# Altium integrated library NSC Interface.IntLib: 511 symbols (part 6 of 17)
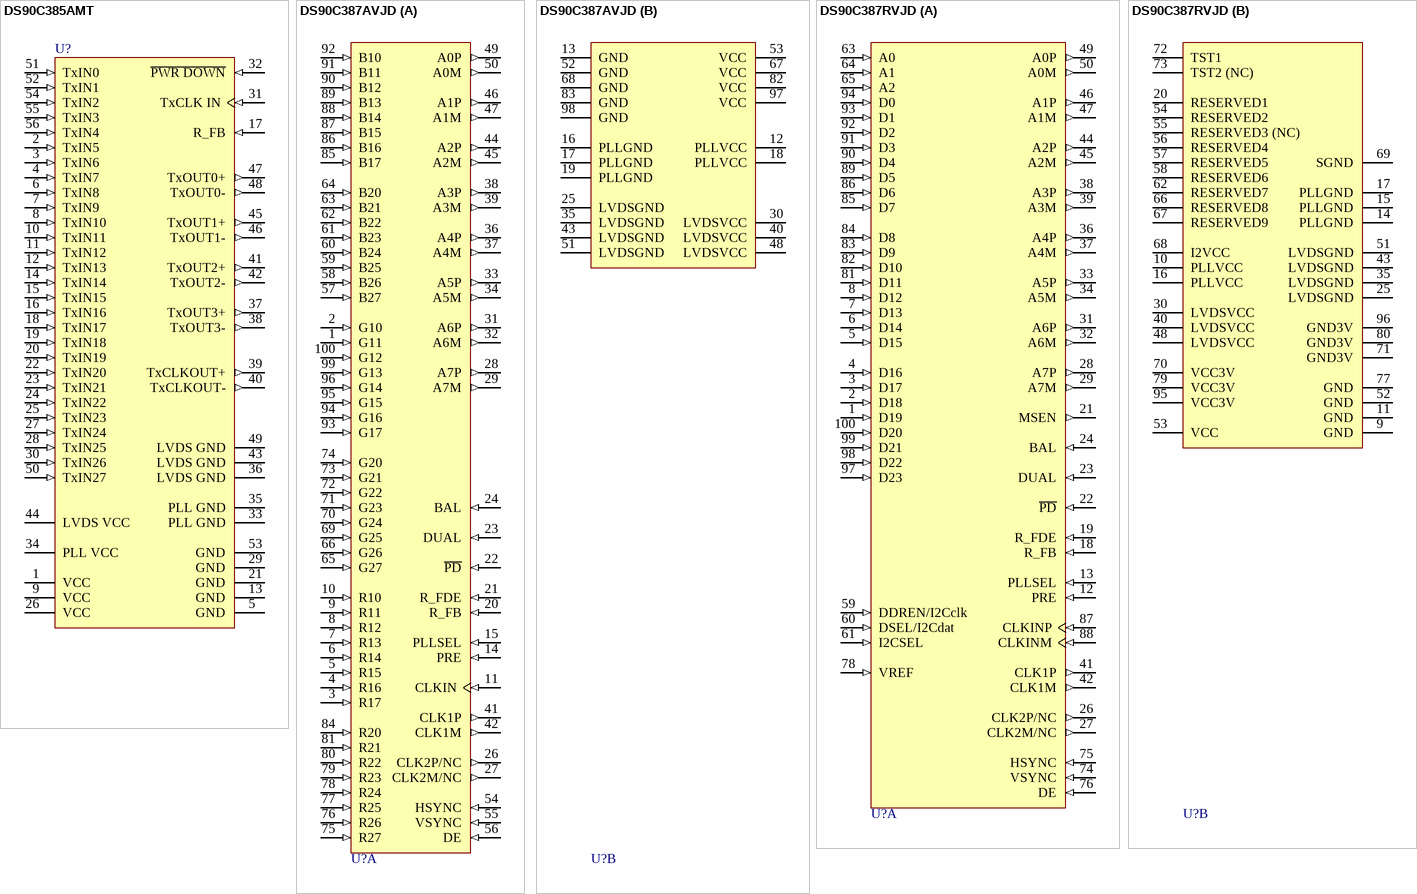
[diagram p47: symbols DS90C385AMT to DS90C387RVJD]

## DS90C387RVJD
designator U?
85MHz Dual 12-Bit Double Pumped Input LDI Transmitter VGA/UXGA; PartNumber: DS90C387RVJD; Manufacturer: National Semiconductor; CompType: Interface IC; PackageTopMarking: NS2ZXYYTT*DS90C387RVJD*BBBBB; PowerWise: N; Published: 4-Dec-2008; DatasheetVersion: Dec-2003; PackageVersion: revC, May-2004; PackageReference: VJD100A; Publisher: Altium Limited; PackageDescription: TQFP, Jedec, Metric, 14 x 14 x 1.0mm, 100 Lead; RoHS: Y; PinCount: 100; DigiKeyPartNumber: DS90C387RVJD-ND; Code_JEDEC: MS-026-AED; ComponentLink1Description: DS90C387R Datasheet; ComponentLink1URL: http://www.national.com/ds/DS/DS90C387R.pdf; ComponentLink2Description: DS90C387R Web Page; ComponentLink2URL: http://www.national.com/pf/DS/DS90C387R.html; ComponentLink3Description: VJD100A Package Page; ComponentLink3URL: http://www.national.com/packaging/folders/vjd100a.html
footprint VJD100A_N (Thin QFP, 100-Leads, Body 14x14mm, Pitch 0.5mm, IPC Medium Density)
footprint VJD100A_L (Thin QFP, 100-Leads, Body 14x14mm, Pitch 0.5mm, IPC High Density)
footprint VJD100A_M (Thin QFP, 100-Leads, Body 14x14mm, Pitch 0.5mm, IPC Low Density)
part A pins: 1 D19 (in), 2 D18 (in), 3 D17 (in), 4 D16 (in), 5 D15 (in), 6 D14 (in), 7 D13 (in), 8 D12  (in), 12 PRE (in), 13 PLLSEL (in), 18 R_FB (in), 19 R_FDE (in), 21 MSEN (out), 22 ~{PD} (in), 23 DUAL (in), 24 BAL (in), 26 CLK2P/NC (out), 27 CLK2M/NC (out), 28 A7P (out), 29 A7M (out), 31 A6P (out), 32 A6M (out), 33 A5P (out), 34 A5M (out), 36 A4P (out), 37 A4M (out), 38 A3P (out), 39 A3M (out), 41 CLK1P (out), 42 CLK1M (out), 44 A2P (out), 45 A2M (out), 46 A1P (out), 47 A1M (out), 49 A0P (out), 50 A0M (out), 59 DDREN/I2Cclk (in), 60 DSEL/I2Cdat (in), 61 I2CSEL (in), 63 A0 (in), 64 A1 (in), 65 A2 (in), 74 VSYNC (in), 75 HSYNC (in), 76 DE (in), 78 VREF (in), 81 D11 (in), 82 D10 (in), 83 D9 (in), 84 D8 (in), 85 D7 (in), 86 D6 (in), 87 CLKINP (in), 88 CLKINM (in), 89 D5 (in), 90 D4 (in), 91 D3 (in), 92 D2 (in), 93 D1 (in), 94 D0 (in), 97 D23 (in), 98 D22 (in), 99 D21 (in), 100 D20 (in)
part B pins: 9 GND (power), 10 PLLVCC (power), 11 GND (power), 14 PLLGND (power), 15 PLLGND (power), 16 PLLVCC (power), 17 PLLGND (power), 20 RESERVED1, 25 LVDSGND (power), 30 LVDSVCC (power), 35 LVDSGND (power), 40 LVDSVCC (power), 43 LVDSGND (power), 48 LVDSVCC (power), 51 LVDSGND (power), 52 GND (power), 53 VCC (power), 54 RESERVED2, 55 RESERVED3 (NC), 56 RESERVED4, 57 RESERVED5, 58 RESERVED6, 62 RESERVED7, 66 RESERVED8, 67 RESERVED9, 68 I2VCC (power), 69 SGND (power), 70 VCC3V (power), 71 GND3V (power), 72 TST1, 73 TST2 (NC), 77 GND (power), 79 VCC3V (power), 80 GND3V (power), 95 VCC3V (power), 96 GND3V (power)

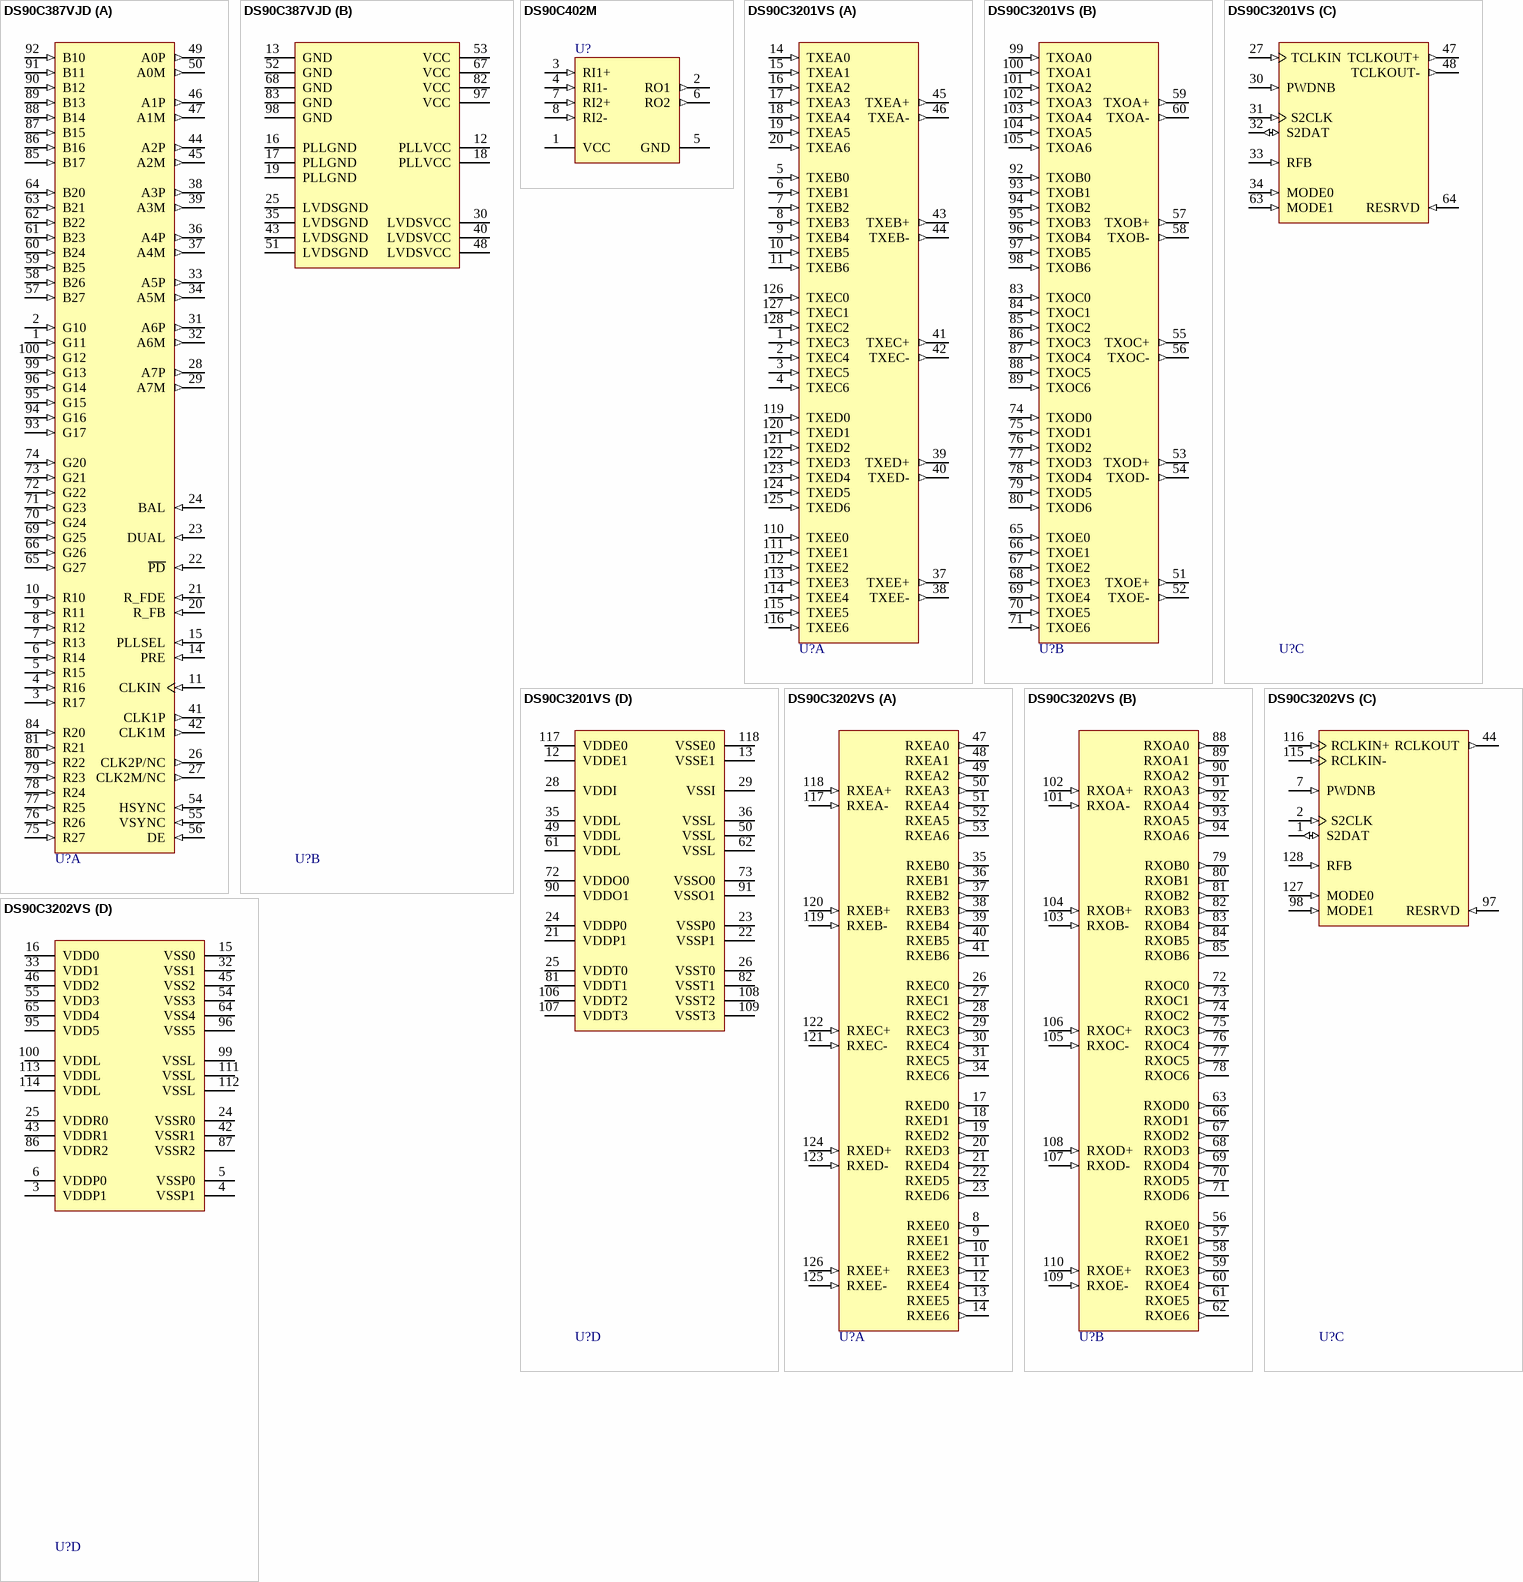
[diagram p14: symbols DS90C387VJD to DS90C3202VS]

## DS90C387VJD
designator U?
+3.3V Dual Pixel LVDS Display Interface (LDI)-SVGA/QXGA; PartNumber: DS90C387VJD; Manufacturer: National Semiconductor; CompType: Interface IC; PackageTopMarking: NS2ZXYYTT*DS90C387VJD*BBBBB; PowerWise: N; Published: 4-Dec-2008; DatasheetVersion: Feb-2006; PackageVersion: revC, May-2004; PackageReference: VJD100A; Publisher: Altium Limited; PackageDescription: TQFP, Jedec, Metric, 14 x 14 x 1.0mm, 100 Lead; RoHS: O; PinCount: 100; DigiKeyPartNumber: DS90C387VJD-ND; Code_JEDEC: MS-026-AED; ComponentLink1Description: DS90C387 Datasheet; ComponentLink1URL: http://www.national.com/ds/DS/DS90C387.pdf; ComponentLink2Description: DS90C387 Web Page; ComponentLink2URL: http://www.national.com/pf/DS/DS90C387.html; ComponentLink3Description: VJD100A Package Page; ComponentLink3URL: http://www.national.com/packaging/folders/vjd100a.html
footprint VJD100A_N (Thin QFP, 100-Leads, Body 14x14mm, Pitch 0.5mm, IPC Medium Density)
footprint VJD100A_L (Thin QFP, 100-Leads, Body 14x14mm, Pitch 0.5mm, IPC High Density)
footprint VJD100A_M (Thin QFP, 100-Leads, Body 14x14mm, Pitch 0.5mm, IPC Low Density)
part A pins: 1 G11 (in), 2 G10 (in), 3 R17 (in), 4 R16 (in), 5 R15 (in), 6 R14 (in), 7 R13 (in), 8 R12 (in), 9 R11 (in), 10 R10 (in), 11 CLKIN (in), 14 PRE (in), 15 PLLSEL (in), 20 R_FB (in), 21 R_FDE (in), 22 ~{PD} (in), 23 DUAL (in), 24 BAL (in), 26 CLK2P/NC (out), 27 CLK2M/NC (out), 28 A7P (out), 29 A7M (out), 31 A6P (out), 32 A6M (out), 33 A5P (out), 34 A5M (out), 36 A4P (out), 37 A4M (out), 38 A3P (out), 39 A3M (out), 41 CLK1P (out), 42 CLK1M (out), 44 A2P (out), 45 A2M (out), 46 A1P (out), 47 A1M (out), 49 A0P (out), 50 A0M (out), 54 HSYNC (in), 55 VSYNC (in), 56 DE (in), 57 B27 (in), 58 B26 (in), 59 B25 (in), 60 B24 (in), 61 B23 (in), 62 B22 (in), 63 B21 (in), 64 B20 (in), 65 G27 (in), 66 G26 (in), 69 G25 (in), 70 G24 (in), 71 G23 (in), 72 G22 (in), 73 G21 (in), 74 G20 (in), 75 R27 (in), 76 R26 (in), 77 R25 (in), 78 R24 (in), 79 R23 (in), 80 R22 (in), 81 R21 (in), 84 R20 (in), 85 B17 (in), 86 B16 (in), 87 B15 (in), 88 B14 (in), 89 B13 (in), 90 B12 (in), 91 B11 (in), 92 B10 (in), 93 G17 (in), 94 G16 (in), 95 G15 (in), 96 G14 (in), 99 G13 (in), 100 G12 (in)
part B pins: 12 PLLVCC (power), 13 GND (power), 16 PLLGND (power), 17 PLLGND (power), 18 PLLVCC (power), 19 PLLGND (power), 25 LVDSGND (power), 30 LVDSVCC (power), 35 LVDSGND (power), 40 LVDSVCC (power), 43 LVDSGND (power), 48 LVDSVCC (power), 51 LVDSGND (power), 52 GND (power), 53 VCC (power), 67 VCC (power), 68 GND (power), 82 VCC (power), 83 GND (power), 97 VCC (power), 98 GND (power)

## DS90C402M
designator U?
Dual Low Voltage Differential Signaling (LVDS) Receiver; PartNumber: DS90C402M; Manufacturer: National Semiconductor; CompType: Interface IC; PackageTopMarking: NSZXTT*DS90C*402M; PowerWise: N; Published: 4-Dec-2008; DatasheetVersion: Aug-2005; PackageVersion: revL, Sep-2006; PackageReference: M08A; Publisher: Altium Limited; PackageDescription: SOIC Narrow, 4.9 x 3.9 x 1.45mm, 8 Lead, 1.27mm Pitch; RoHS: O; PinCount: 8; DigiKeyPartNumber: DS90C402M-ND; Code_JEDEC: MS-012-AA; Code_IPC: SOIC127P600-8; ComponentLink1Description: DS90C402 Datasheet; ComponentLink1URL: http://www.national.com/ds/DS/DS90C402.pdf; ComponentLink2Description: DS90C402 Web Page; ComponentLink2URL: http://www.national.com/pf/DS/DS90C402.html; ComponentLink3Description: M08A Package Page; ComponentLink3URL: http://www.national.com/packaging/folders/m08a.html
footprint M08A_N (SOIC, 8-Leads, Body 4.9x3.9mm, Pitch 1.27mm, IPC Medium Density)
footprint M08A_L (SOIC, 8-Leads, Body 4.9x3.9mm, Pitch 1.27mm, IPC High Density)
footprint M08A_M (SOIC, 8-Leads, Body 4.9x3.9mm, Pitch 1.27mm, IPC Low Density)
pins: 1 VCC (power), 2 RO1 (out), 3 RI1+ (in), 4 RI1- (in), 5 GND (power), 6 RO2 (out), 7 RI2+ (in), 8 RI2- (in)

## DS90C3201VS
designator U?
3.3V 8 MHz to 135 MHz Dual FPD-Link Transmitter; PartNumber: DS90C3201VS; Manufacturer: National Semiconductor; CompType: Interface IC; PackageTopMarking: NSUZXYYTT*DS90C3201VS; PowerWise: N; Published: 4-Dec-2008; DatasheetVersion: Feb-2006; PackageVersion: revA, Nov-2001; PackageReference: VJX128A; Publisher: Altium Limited; PackageDescription: TQFP, 14 x 14 x 1.0mm, 128 Lead, 0.4mm Pitch; RoHS: Y; PinCount: 128; DigiKeyPartNumber: DS90C3201VS-ND; ComponentLink1Description: DS90C3201 Datasheet; ComponentLink1URL: http://www.national.com/ds/DS/DS90C3201.pdf; ComponentLink2Description: DS90C3201 Web Page; ComponentLink2URL: http://www.national.com/pf/DS/DS90C3201.html; ComponentLink3Description: VJX128A Package Page; ComponentLink3URL: http://www.national.com/packaging/folders/vjx128a.html
footprint VJX128A_N (Thin QFP, 128-Leads, Body 14x14mm, Pitch 0.4mm, IPC Medium Density)
footprint VJX128A_L (Thin QFP, 128-Leads, Body 14x14mm, Pitch 0.4mm, IPC High Density)
footprint VJX128A_M (Thin QFP, 128-Leads, Body 14x14mm, Pitch 0.4mm, IPC Low Density)
part A pins: 1 TXEC3 (in), 2 TXEC4 (in), 3 TXEC5 (in), 4 TXEC6 (in), 5 TXEB0 (in), 6 TXEB1 (in), 7 TXEB2 (in), 8 TXEB3 (in), 9 TXEB4 (in), 10 TXEB5 (in), 11 TXEB6 (in), 14 TXEA0 (in), 15 TXEA1 (in), 16 TXEA2 (in), 17 TXEA3 (in), 18 TXEA4 (in), 19 TXEA5 (in), 20 TXEA6 (in), 37 TXEE+ (out), 38 TXEE- (out), 39 TXED+ (out), 40 TXED- (out), 41 TXEC+ (out), 42 TXEC- (out), 43 TXEB+ (out), 44 TXEB- (out), 45 TXEA+ (out), 46 TXEA- (out), 110 TXEE0 (in), 111 TXEE1 (in), 112 TXEE2 (in), 113 TXEE3 (in), 114 TXEE4 (in), 115 TXEE5 (in), 116 TXEE6 (in), 119 TXED0 (in), 120 TXED1 (in), 121 TXED2 (in), 122 TXED3 (in), 123 TXED4 (in), 124 TXED5 (in), 125 TXED6 (in), 126 TXEC0 (in), 127 TXEC1 (in), 128 TXEC2 (in)
part B pins: 51 TXOE+ (out), 52 TXOE- (out), 53 TXOD+ (out), 54 TXOD- (out), 55 TXOC+ (out), 56 TXOC- (out), 57 TXOB+ (out), 58 TXOB- (out), 59 TXOA+ (out), 60 TXOA- (out), 65 TXOE0 (in), 66 TXOE1 (in), 67 TXOE2 (in), 68 TXOE3 (in), 69 TXOE4 (in), 70 TXOE5 (in), 71 TXOE6 (in), 74 TXOD0 (in), 75 TXOD1 (in), 76 TXOD2 (in), 77 TXOD3 (in), 78 TXOD4 (in), 79 TXOD5 (in), 80 TXOD6 (in), 83 TXOC0 (in), 84 TXOC1 (in), 85 TXOC2 (in), 86 TXOC3 (in), 87 TXOC4 (in), 88 TXOC5 (in), 89 TXOC6 (in), 92 TXOB0 (in), 93 TXOB1 (in), 94 TXOB2 (in), 95 TXOB3 (in), 96 TXOB4 (in), 97 TXOB5 (in), 98 TXOB6 (in), 99 TXOA0 (in), 100 TXOA1 (in), 101 TXOA2 (in), 102 TXOA3 (in), 103 TXOA4 (in), 104 TXOA5 (in), 105 TXOA6 (in)
part C pins: 27 TCLKIN (in), 30 PWDNB (in), 31 S2CLK (in), 32 S2DAT (io), 33 RFB (in), 34 MODE0 (in), 47 TCLKOUT+ (out), 48 TCLKOUT- (out), 63 MODE1 (in), 64 RESRVD (in)
part D pins: 12 VDDE1 (power), 13 VSSE1 (power), 21 VDDP1 (power), 22 VSSP1 (power), 23 VSSP0 (power), 24 VDDP0 (power), 25 VDDT0 (power), 26 VSST0 (power), 28 VDDI (power), 29 VSSI (power), 35 VDDL (power), 36 VSSL (power), 49 VDDL (power), 50 VSSL (power), 61 VDDL (power), 62 VSSL (power), 72 VDDO0 (power), 73 VSSO0 (power), 81 VDDT1 (power), 82 VSST1 (power), 90 VDDO1 (power), 91 VSSO1 (power), 106 VDDT2 (power), 107 VDDT3 (power), 108 VSST2 (power), 109 VSST3 (power), 117 VDDE0 (power), 118 VSSE0 (power)

## DS90C3202VS
designator U?
3.3V 8 MHz to 135 MHz Dual FPD-Link Receiver; PartNumber: DS90C3202VS; Manufacturer: National Semiconductor; CompType: Interface IC; PackageTopMarking: NSUZXYYTT*DS90C3202VS; PowerWise: N; Published: 4-Dec-2008; DatasheetVersion: Sep-2006; PackageVersion: revA, Nov-2001; PackageReference: VJX128A; Publisher: Altium Limited; PackageDescription: TQFP, 14 x 14 x 1.0mm, 128 Lead, 0.4mm Pitch; RoHS: Y; PinCount: 128; DigiKeyPartNumber: DS90C3202VS-ND; ComponentLink1Description: DS90C3202 Datasheet; ComponentLink1URL: http://www.national.com/ds/DS/DS90C3202.pdf; ComponentLink2Description: DS90C3202 Web Page; ComponentLink2URL: http://www.national.com/pf/DS/DS90C3202.html; ComponentLink3Description: VJX128A Package Page; ComponentLink3URL: http://www.national.com/packaging/folders/vjx128a.html
footprint VJX128A_N (Thin QFP, 128-Leads, Body 14x14mm, Pitch 0.4mm, IPC Medium Density)
footprint VJX128A_L (Thin QFP, 128-Leads, Body 14x14mm, Pitch 0.4mm, IPC High Density)
footprint VJX128A_M (Thin QFP, 128-Leads, Body 14x14mm, Pitch 0.4mm, IPC Low Density)
part A pins: 8 RXEE0 (out), 9 RXEE1 (out), 10 RXEE2 (out), 11 RXEE3 (out), 12 RXEE4 (out), 13 RXEE5 (out), 14 RXEE6 (out), 17 RXED0 (out), 18 RXED1 (out), 19 RXED2 (out), 20 RXED3 (out), 21 RXED4 (out), 22 RXED5 (out), 23 RXED6 (out), 26 RXEC0 (out), 27 RXEC1 (out), 28 RXEC2 (out), 29 RXEC3 (out), 30 RXEC4 (out), 31 RXEC5 (out), 34 RXEC6 (out), 35 RXEB0 (out), 36 RXEB1 (out), 37 RXEB2 (out), 38 RXEB3 (out), 39 RXEB4 (out), 40 RXEB5 (out), 41 RXEB6 (out), 47 RXEA0 (out), 48 RXEA1 (out), 49 RXEA2 (out), 50 RXEA3 (out), 51 RXEA4 (out), 52 RXEA5 (out), 53 RXEA6 (out), 117 RXEA- (in), 118 RXEA+ (in), 119 RXEB- (in), 120 RXEB+ (in), 121 RXEC- (in), 122 RXEC+ (in), 123 RXED- (in), 124 RXED+ (in), 125 RXEE- (in), 126 RXEE+ (in)
part B pins: 56 RXOE0 (out), 57 RXOE1 (out), 58 RXOE2 (out), 59 RXOE3 (out), 60 RXOE4 (out), 61 RXOE5 (out), 62 RXOE6 (out), 63 RXOD0 (out), 66 RXOD1 (out), 67 RXOD2 (out), 68 RXOD3 (out), 69 RXOD4 (out), 70 RXOD5 (out), 71 RXOD6 (out), 72 RXOC0 (out), 73 RXOC1 (out), 74 RXOC2 (out), 75 RXOC3 (out), 76 RXOC4 (out), 77 RXOC5 (out), 78 RXOC6 (out), 79 RXOB0 (out), 80 RXOB1 (out), 81 RXOB2 (out), 82 RXOB3 (out), 83 RXOB4 (out), 84 RXOB5 (out), 85 RXOB6 (out), 88 RXOA0 (out), 89 RXOA1 (out), 90 RXOA2 (out), 91 RXOA3 (out), 92 RXOA4 (out), 93 RXOA5 (out), 94 RXOA6 (out), 101 RXOA- (in), 102 RXOA+ (in), 103 RXOB- (in), 104 RXOB+ (in), 105 RXOC- (in), 106 RXOC+ (in), 107 RXOD- (in), 108 RXOD+ (in), 109 RXOE- (in), 110 RXOE+ (in)
part C pins: 1 S2DAT (io), 2 S2CLK (in), 7 PWDNB (in), 44 RCLKOUT (out), 97 RESRVD (in), 98 MODE1 (in), 115 RCLKIN- (in), 116 RCLKIN+ (in), 127 MODE0 (in), 128 RFB (in)
part D pins: 3 VDDP1 (power), 4 VSSP1 (power), 5 VSSP0 (power), 6 VDDP0 (power), 15 VSS0 (power), 16 VDD0 (power), 24 VSSR0 (power), 25 VDDR0 (power), 32 VSS1 (power), 33 VDD1 (power), 42 VSSR1 (power), 43 VDDR1 (power), 45 VSS2 (power), 46 VDD2 (power), 54 VSS3 (power), 55 VDD3 (power), 64 VSS4 (power), 65 VDD4 (power), 86 VDDR2 (power), 87 VSSR2 (power), 95 VDD5 (power), 96 VSS5 (power), 99 VSSL (power), 100 VDDL (power), 111 VSSL (power), 112 VSSL (power), 113 VDDL (power), 114 VDDL (power)

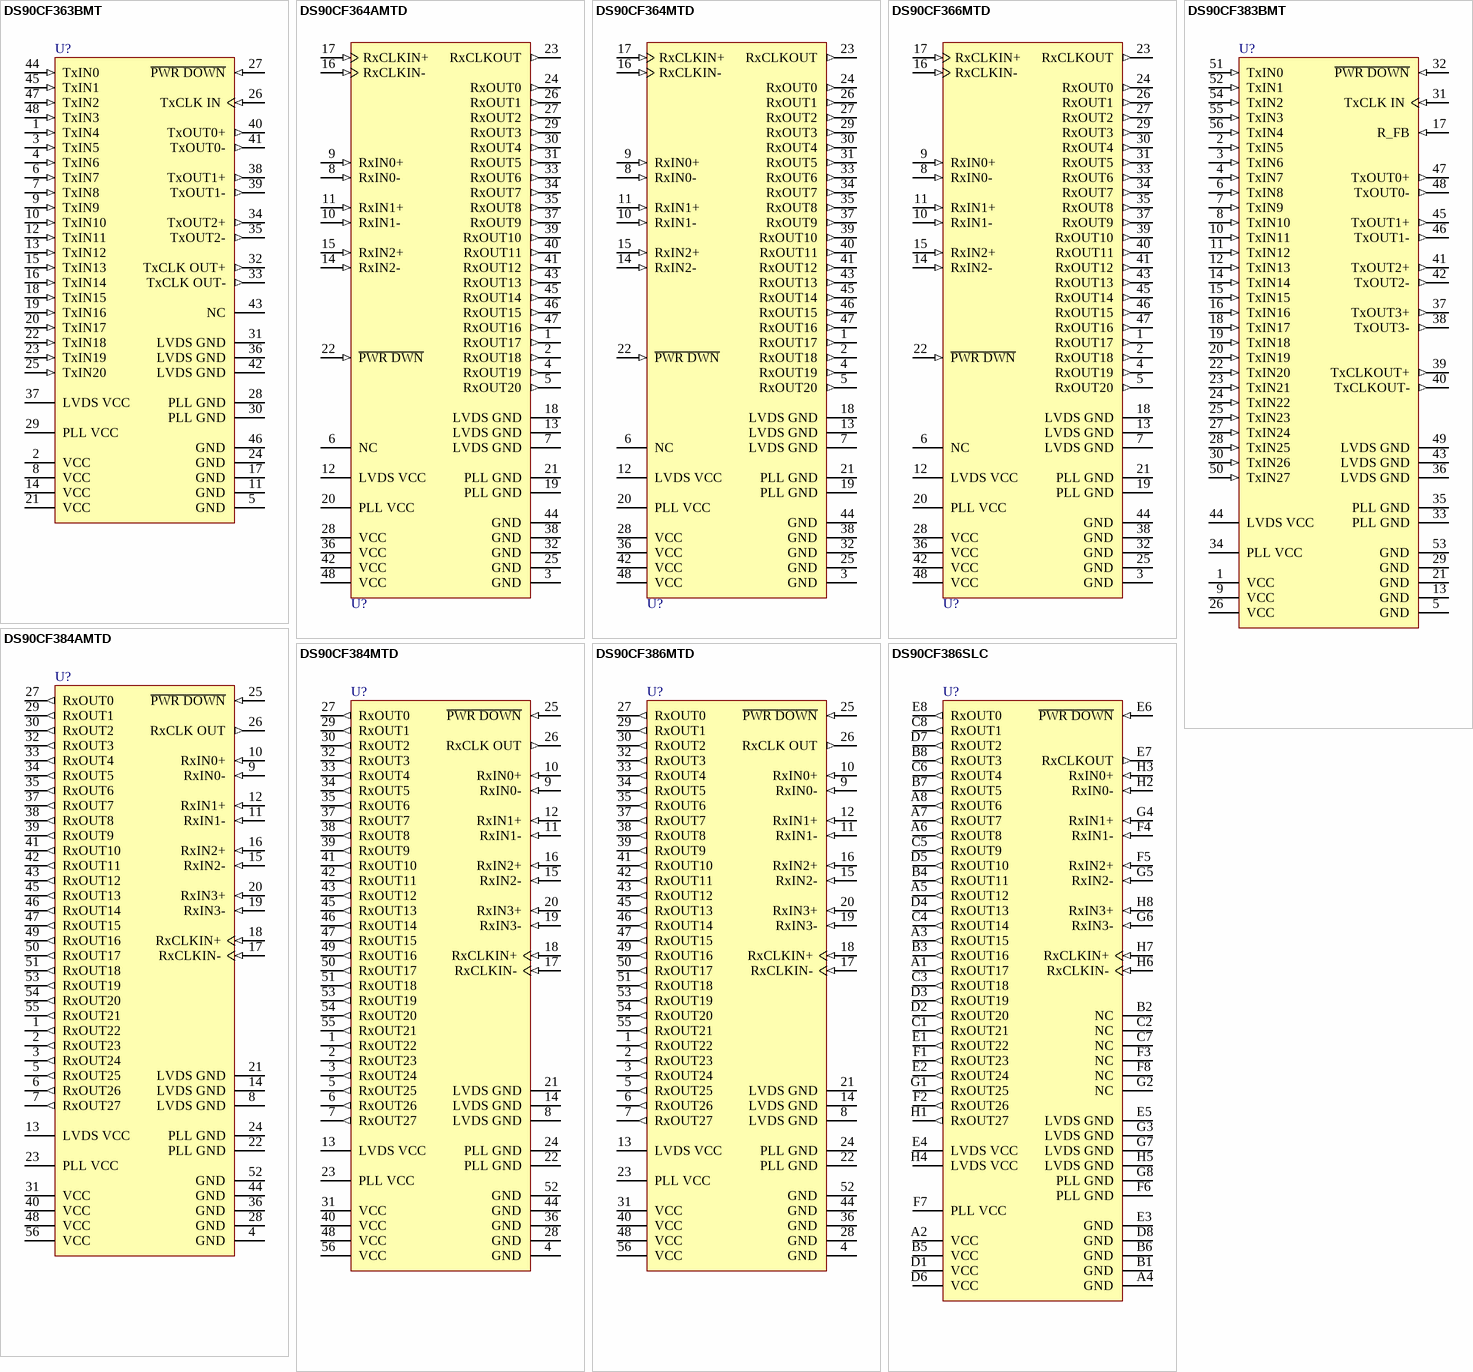
[diagram p15: symbols DS90CF363BMT to DS90CF386SLC]

## DS90CF363BMT
designator U?
+3.3V Programmable LVDS Transmitter 18-Bit Flat Panel Display (FPD) Link - 65MHz; PartNumber: DS90CF363BMT; Manufacturer: National Semiconductor; CompType: Interface IC; PackageTopMarking: NSUZXYTT*DS90CF363BMT; PowerWise: N; Published: 4-Dec-2008; DatasheetVersion: Oct-2006; PackageVersion: revE, Apr-2003; PackageReference: MTD48; Publisher: Altium Limited; PackageDescription: Molded TSSOP, Jedec, 12.5 x 6.1 x 0.9mm Body, 48 Lead, 0.50mm Pitch; RoHS: O; PinCount: 48; Code_JEDEC: MO-153-ED; ComponentLink1Description: DS90CF363B Datasheet; ComponentLink1URL: http://www.national.com/ds/DS/DS90CF363B.pdf; ComponentLink2Description: DS90CF363B Web Page; ComponentLink2URL: http://www.national.com/pf/DS/DS90CF363B.html; ComponentLink3Description: MTD48 Package Page; ComponentLink3URL: http://www.national.com/packaging/folders/mtd48.html
footprint MTD48_N (TSSOP, 48-Leads, Body 12.5x6.1mm, Pitch 0.5mm, IPC Medium Density)
footprint MTD48_L (TSSOP, 48-Leads, Body 12.5x6.1mm, Pitch 0.5mm, IPC High Density)
footprint MTD48_M (TSSOP, 48-Leads, Body 12.5x6.1mm, Pitch 0.5mm, IPC Low Density)
pins: 1 TxIN4 (in), 2 VCC (power), 3 TxIN5 (in), 4 TxIN6 (in), 5 GND (power), 6 TxIN7 (in), 7 TxIN8 (in), 8 VCC (power), 9 TxIN9 (in), 10 TxIN10 (in), 11 GND (power), 12 TxIN11 (in), 13 TxIN12 (in), 14 VCC (power), 15 TxIN13 (in), 16 TxIN14 (in), 17 GND (power), 18 TxIN15 (in), 19 TxIN16 (in), 20 TxIN17 (in), 21 VCC (power), 22 TxIN18 (in), 23 TxIN19 (in), 24 GND (power), 25 TxIN20 (in), 26 TxCLK IN (in), 27 ~{PWR DOWN} (in), 28 PLL GND (power), 29 PLL VCC (power), 30 PLL GND (power), 31 LVDS GND (power), 32 TxCLK OUT+ (out), 33 TxCLK OUT- (out), 34 TxOUT2+ (out), 35 TxOUT2- (out), 36 LVDS GND (power), 37 LVDS VCC (power), 38 TxOUT1+ (out), 39 TxOUT1- (out), 40 TxOUT0+ (out), 41 TxOUT0- (out), 42 LVDS GND (power), 43 NC, 44 TxIN0 (in), 45 TxIN1 (in), 46 GND (power), 47 TxIN2 (in), 48 TxIN3 (in)

## DS90CF364AMTD
designator U?
+3.3V LVDS Receiver 18-Bit Flat Panel Display (FPD) Link - 65 MHz; PartNumber: DS90CF364AMTD; Manufacturer: National Semiconductor; CompType: Interface IC; PackageTopMarking: NS2ZXYTT*DS90CF364AMTD*BBBBB; PowerWise: N; Published: 4-Dec-2008; DatasheetVersion: Jul-2007; PackageVersion: revE, Apr-2003; PackageReference: MTD48; Publisher: Altium Limited; PackageDescription: Molded TSSOP, Jedec, 12.5 x 6.1 x 0.9mm Body, 48 Lead, 0.50mm Pitch; RoHS: O; PinCount: 48; DigiKeyPartNumber: DS90CF364AMTD-ND; Code_JEDEC: MO-153-ED; ComponentLink1Description: DS90CF364A Datasheet; ComponentLink1URL: http://www.national.com/ds/DS/DS90CF364A.pdf; ComponentLink2Description: DS90CF364A Web Page; ComponentLink2URL: http://www.national.com/pf/DS/DS90CF364A.html; ComponentLink3Description: MTD48 Package Page; ComponentLink3URL: http://www.national.com/packaging/folders/mtd48.html
footprint MTD48_N (TSSOP, 48-Leads, Body 12.5x6.1mm, Pitch 0.5mm, IPC Medium Density)
footprint MTD48_L (TSSOP, 48-Leads, Body 12.5x6.1mm, Pitch 0.5mm, IPC High Density)
footprint MTD48_M (TSSOP, 48-Leads, Body 12.5x6.1mm, Pitch 0.5mm, IPC Low Density)
pins: 1 RxOUT17 (out), 2 RxOUT18 (out), 3 GND (power), 4 RxOUT19 (out), 5 RxOUT20 (out), 6 NC, 7 LVDS GND (power), 8 RxIN0- (in), 9 RxIN0+ (in), 10 RxIN1- (in), 11 RxIN1+ (in), 12 LVDS VCC (power), 13 LVDS GND (power), 14 RxIN2- (in), 15 RxIN2+ (in), 16 RxCLKIN- (in), 17 RxCLKIN+ (in), 18 LVDS GND (power), 19 PLL GND (power), 20 PLL VCC (power), 21 PLL GND (power), 22 ~{PWR DWN} (in), 23 RxCLKOUT (out), 24 RxOUT0 (out), 25 GND (power), 26 RxOUT1 (out), 27 RxOUT2 (out), 28 VCC (power), 29 RxOUT3 (out), 30 RxOUT4 (out), 31 RxOUT5 (out), 32 GND (power), 33 RxOUT6 (out), 34 RxOUT7 (out), 35 RxOUT8 (out), 36 VCC (power), 37 RxOUT9 (out), 38 GND (power), 39 RxOUT10 (out), 40 RxOUT11 (out), 41 RxOUT12 (out), 42 VCC (power), 43 RxOUT13 (out), 44 GND (power), 45 RxOUT14 (out), 46 RxOUT15 (out), 47 RxOUT16 (out), 48 VCC (power)

## DS90CF364MTD
designator U?
+3.3V LVDS Receiver 18-Bit Flat Panel Display (FPD) Link - 65 MHz; PartNumber: DS90CF364MTD; Manufacturer: National Semiconductor; CompType: Interface IC; PackageTopMarking: NS2ZXYTT*DS90CF364MTD*BBBBB; PowerWise: N; Published: 4-Dec-2008; DatasheetVersion: Sep-1999; PackageVersion: revE, Apr-2003; PackageReference: MTD48; Publisher: Altium Limited; PackageDescription: Molded TSSOP, Jedec, 12.5 x 6.1 x 0.9mm Body, 48 Lead, 0.50mm Pitch; RoHS: O; PinCount: 48; DigiKeyPartNumber: DS90CF364MTD-ND; Code_JEDEC: MO-153-ED; ComponentLink1Description: DS90CF364 Datasheet; ComponentLink1URL: http://www.national.com/ds/DS/DS90CF364.pdf; ComponentLink2Description: DS90CF364 Web Page; ComponentLink2URL: http://www.national.com/pf/DS/DS90CF364.html; ComponentLink3Description: MTD48 Package Page; ComponentLink3URL: http://www.national.com/packaging/folders/mtd48.html
footprint MTD48_N (TSSOP, 48-Leads, Body 12.5x6.1mm, Pitch 0.5mm, IPC Medium Density)
footprint MTD48_L (TSSOP, 48-Leads, Body 12.5x6.1mm, Pitch 0.5mm, IPC High Density)
footprint MTD48_M (TSSOP, 48-Leads, Body 12.5x6.1mm, Pitch 0.5mm, IPC Low Density)
pins: 1 RxOUT17 (out), 2 RxOUT18 (out), 3 GND (power), 4 RxOUT19 (out), 5 RxOUT20 (out), 6 NC, 7 LVDS GND (power), 8 RxIN0- (in), 9 RxIN0+ (in), 10 RxIN1- (in), 11 RxIN1+ (in), 12 LVDS VCC (power), 13 LVDS GND (power), 14 RxIN2- (in), 15 RxIN2+ (in), 16 RxCLKIN- (in), 17 RxCLKIN+ (in), 18 LVDS GND (power), 19 PLL GND (power), 20 PLL VCC (power), 21 PLL GND (power), 22 ~{PWR DWN} (in), 23 RxCLKOUT (out), 24 RxOUT0 (out), 25 GND (power), 26 RxOUT1 (out), 27 RxOUT2 (out), 28 VCC (power), 29 RxOUT3 (out), 30 RxOUT4 (out), 31 RxOUT5 (out), 32 GND (power), 33 RxOUT6 (out), 34 RxOUT7 (out), 35 RxOUT8 (out), 36 VCC (power), 37 RxOUT9 (out), 38 GND (power), 39 RxOUT10 (out), 40 RxOUT11 (out), 41 RxOUT12 (out), 42 VCC (power), 43 RxOUT13 (out), 44 GND (power), 45 RxOUT14 (out), 46 RxOUT15 (out), 47 RxOUT16 (out), 48 VCC (power)

## DS90CF366MTD
designator U?
+3.3V LVDS Receiver 18-Bit Flat Panel Display (FPD) Link - 85 MHz; PartNumber: DS90CF366MTD; Manufacturer: National Semiconductor; CompType: Interface IC; PackageTopMarking: NSUZXYTT*DS90CF366MTD*BBBBB; PowerWise: N; Published: 4-Dec-2008; DatasheetVersion: Feb-2006; PackageVersion: revE, Apr-2003; PackageReference: MTD48; Publisher: Altium Limited; PackageDescription: Molded TSSOP, Jedec, 12.5 x 6.1 x 0.9mm Body, 48 Lead, 0.50mm Pitch; RoHS: Y; PinCount: 48; DigiKeyPartNumber: DS90CF366MTD-ND; Code_JEDEC: MO-153-ED; ComponentLink1Description: DS90CF366 Datasheet; ComponentLink1URL: http://www.national.com/ds/DS/DS90CF366.pdf; ComponentLink2Description: DS90CF366 Web Page; ComponentLink2URL: http://www.national.com/pf/DS/DS90CF366.html; ComponentLink3Description: MTD48 Package Page; ComponentLink3URL: http://www.national.com/packaging/folders/mtd48.html
footprint MTD48_N (TSSOP, 48-Leads, Body 12.5x6.1mm, Pitch 0.5mm, IPC Medium Density)
footprint MTD48_L (TSSOP, 48-Leads, Body 12.5x6.1mm, Pitch 0.5mm, IPC High Density)
footprint MTD48_M (TSSOP, 48-Leads, Body 12.5x6.1mm, Pitch 0.5mm, IPC Low Density)
pins: 1 RxOUT17 (out), 2 RxOUT18 (out), 3 GND (power), 4 RxOUT19 (out), 5 RxOUT20 (out), 6 NC, 7 LVDS GND (power), 8 RxIN0- (in), 9 RxIN0+ (in), 10 RxIN1- (in), 11 RxIN1+ (in), 12 LVDS VCC (power), 13 LVDS GND (power), 14 RxIN2- (in), 15 RxIN2+ (in), 16 RxCLKIN- (in), 17 RxCLKIN+ (in), 18 LVDS GND (power), 19 PLL GND (power), 20 PLL VCC (power), 21 PLL GND (power), 22 ~{PWR DWN} (in), 23 RxCLKOUT (out), 24 RxOUT0 (out), 25 GND (power), 26 RxOUT1 (out), 27 RxOUT2 (out), 28 VCC (power), 29 RxOUT3 (out), 30 RxOUT4 (out), 31 RxOUT5 (out), 32 GND (power), 33 RxOUT6 (out), 34 RxOUT7 (out), 35 RxOUT8 (out), 36 VCC (power), 37 RxOUT9 (out), 38 GND (power), 39 RxOUT10 (out), 40 RxOUT11 (out), 41 RxOUT12 (out), 42 VCC (power), 43 RxOUT13 (out), 44 GND (power), 45 RxOUT14 (out), 46 RxOUT15 (out), 47 RxOUT16 (out), 48 VCC (power)

## DS90CF383BMT
designator U?
+3.3V LVDS Transmitter 24-Bit Flat Panel Display (FPD) Link - 65 MHz; PartNumber: DS90CF383BMT; Manufacturer: National Semiconductor; CompType: Interface IC; PackageTopMarking: NSUZXYTT*DS90CF383BMT; PowerWise: N; Published: 4-Dec-2008; DatasheetVersion: Oct-2006; PackageVersion: revD, Apr-2003; PackageReference: MTD56; Publisher: Altium Limited; PackageDescription: Molded TSSOP, Jedec, 14 x 6.1 x 0.9mm Body, 56 Lead, 0.50mm Pitch; RoHS: Y; PinCount: 56; Code_IPC: TSSOP50P810-56; ComponentLink1Description: DS90CF383B Datasheet; ComponentLink1URL: http://www.national.com/ds/DS/DS90C383B.pdf; ComponentLink2Description: DS90CF383B Web Page; ComponentLink2URL: http://www.national.com/pf/DS/DS90CF383B.html; ComponentLink3Description: MTD56 Package Page; ComponentLink3URL: http://www.national.com/packaging/folders/mtd56.html
footprint MTD56_N (TSSOP, 56-Leads, Body 14x6.1mm, Pitch 0.5mm, IPC Medium Density)
footprint MTD56_L (TSSOP, 56-Leads, Body 14x6.1mm, Pitch 0.5mm, IPC High Density)
footprint MTD56_M (TSSOP, 56-Leads, Body 14x6.1mm, Pitch 0.5mm, IPC Low Density)
pins: 1 VCC (power), 2 TxIN5 (in), 3 TxIN6 (in), 4 TxIN7 (in), 5 GND (power), 6 TxIN8 (in), 7 TxIN9 (in), 8 TxIN10 (in), 9 VCC (power), 10 TxIN11 (in), 11 TxIN12 (in), 12 TxIN13 (in), 13 GND (power), 14 TxIN14 (in), 15 TxIN15 (in), 16 TxIN16 (in), 17 R_FB (in), 18 TxIN17 (in), 19 TxIN18 (in), 20 TxIN19 (in), 21 GND (power), 22 TxIN20 (in), 23 TxIN21 (in), 24 TxIN22 (in), 25 TxIN23 (in), 26 VCC (power), 27 TxIN24 (in), 28 TxIN25 (in), 29 GND (power), 30 TxIN26 (in), 31 TxCLK IN (in), 32 ~{PWR DOWN} (in), 33 PLL GND (power), 34 PLL VCC (power), 35 PLL GND (power), 36 LVDS GND (power), 37 TxOUT3+ (out), 38 TxOUT3- (out), 39 TxCLKOUT+ (out), 40 TxCLKOUT- (out), 41 TxOUT2+ (out), 42 TxOUT2- (out), 43 LVDS GND (power), 44 LVDS VCC (power), 45 TxOUT1+ (out), 46 TxOUT1- (out), 47 TxOUT0+ (out), 48 TxOUT0- (out), 49 LVDS GND (power), 50 TxIN27 (in), 51 TxIN0 (in), 52 TxIN1 (in), 53 GND (power), 54 TxIN2 (in), 55 TxIN3 (in), 56 TxIN4 (in)

## DS90CF384AMTD
designator U?
+3.3V LVDS Receiver 24-Bit Flat Panel Display (FPD) Link - 65 MHz; PartNumber: DS90CF384AMTD; Manufacturer: National Semiconductor; CompType: Interface IC; PackageTopMarking: NS2ZXYTT*DS90CF384AMTD*BBBBB; PowerWise: N; Published: 4-Dec-2008; DatasheetVersion: Jul-2007; PackageVersion: revD, Apr-2003; PackageReference: MTD56; Publisher: Altium Limited; PackageDescription: Molded TSSOP, Jedec, 14 x 6.1 x 0.9mm Body, 56 Lead, 0.50mm Pitch; RoHS: O; PinCount: 56; DigiKeyPartNumber: DS90CF384AMTD-ND; Code_IPC: TSSOP50P810-56; ComponentLink1Description: DS90CF384A Datasheet; ComponentLink1URL: http://www.national.com/ds/DS/DS90CF384A.pdf; ComponentLink2Description: DS90CF384A Web Page; ComponentLink2URL: http://www.national.com/pf/DS/DS90CF384A.html; ComponentLink3Description: MTD56 Package Page; ComponentLink3URL: http://www.national.com/packaging/folders/mtd56.html
footprint MTD56_N (TSSOP, 56-Leads, Body 14x6.1mm, Pitch 0.5mm, IPC Medium Density)
footprint MTD56_L (TSSOP, 56-Leads, Body 14x6.1mm, Pitch 0.5mm, IPC High Density)
footprint MTD56_M (TSSOP, 56-Leads, Body 14x6.1mm, Pitch 0.5mm, IPC Low Density)
pins: 1 RxOUT22 (out), 2 RxOUT23 (out), 3 RxOUT24 (out), 4 GND (power), 5 RxOUT25 (out), 6 RxOUT26 (out), 7 RxOUT27 (out), 8 LVDS GND (power), 9 RxIN0- (in), 10 RxIN0+ (in), 11 RxIN1- (in), 12 RxIN1+ (in), 13 LVDS VCC (power), 14 LVDS GND (power), 15 RxIN2- (in), 16 RxIN2+ (in), 17 RxCLKIN- (in), 18 RxCLKIN+ (in), 19 RxIN3- (in), 20 RxIN3+ (in), 21 LVDS GND (power), 22 PLL GND (power), 23 PLL VCC (power), 24 PLL GND (power), 25 ~{PWR DOWN} (in), 26 RxCLK OUT (out), 27 RxOUT0 (out), 28 GND (power), 29 RxOUT1 (out), 30 RxOUT2 (out), 31 VCC (power), 32 RxOUT3 (out), 33 RxOUT4 (out), 34 RxOUT5 (out), 35 RxOUT6 (out), 36 GND (power), 37 RxOUT7 (out), 38 RxOUT8 (out), 39 RxOUT9 (out), 40 VCC (power), 41 RxOUT10 (out), 42 RxOUT11 (out), 43 RxOUT12 (out), 44 GND (power), 45 RxOUT13 (out), 46 RxOUT14 (out), 47 RxOUT15 (out), 48 VCC (power), 49 RxOUT16 (out), 50 RxOUT17 (out), 51 RxOUT18 (out), 52 GND (power), 53 RxOUT19 (out), 54 RxOUT20 (out), 55 RxOUT21 (out), 56 VCC (power)

## DS90CF384MTD
designator U?
+3.3V LVDS Receiver 24-Bit Flat Panel Display (FPD) Link - 65 MHz; PartNumber: DS90CF384MTD; Manufacturer: National Semiconductor; CompType: Interface IC; PackageTopMarking: NS2ZXYTT*DS90CF384MTD*BBBBB; PowerWise: N; Published: 4-Dec-2008; DatasheetVersion: Nov-2000; PackageVersion: revD, Apr-2003; PackageReference: MTD56; Publisher: Altium Limited; PackageDescription: Molded TSSOP, Jedec, 14 x 6.1 x 0.9mm Body, 56 Lead, 0.50mm Pitch; RoHS: O; PinCount: 56; DigiKeyPartNumber: DS90CF384MTD-ND; Code_IPC: TSSOP50P810-56; ComponentLink1Description: DS90CF384 Datasheet; ComponentLink1URL: http://www.national.com/ds/DS/DS90CF384.pdf; ComponentLink2Description: DS90CF384 Web Page; ComponentLink2URL: http://www.national.com/pf/DS/DS90CF384.html; ComponentLink3Description: MTD56 Package Page; ComponentLink3URL: http://www.national.com/packaging/folders/mtd56.html
footprint MTD56_N (TSSOP, 56-Leads, Body 14x6.1mm, Pitch 0.5mm, IPC Medium Density)
footprint MTD56_L (TSSOP, 56-Leads, Body 14x6.1mm, Pitch 0.5mm, IPC High Density)
footprint MTD56_M (TSSOP, 56-Leads, Body 14x6.1mm, Pitch 0.5mm, IPC Low Density)
pins: 1 RxOUT22 (out), 2 RxOUT23 (out), 3 RxOUT24 (out), 4 GND (power), 5 RxOUT25 (out), 6 RxOUT26 (out), 7 RxOUT27 (out), 8 LVDS GND (power), 9 RxIN0- (in), 10 RxIN0+ (in), 11 RxIN1- (in), 12 RxIN1+ (in), 13 LVDS VCC (power), 14 LVDS GND (power), 15 RxIN2- (in), 16 RxIN2+ (in), 17 RxCLKIN- (in), 18 RxCLKIN+ (in), 19 RxIN3- (in), 20 RxIN3+ (in), 21 LVDS GND (power), 22 PLL GND (power), 23 PLL VCC (power), 24 PLL GND (power), 25 ~{PWR DOWN} (in), 26 RxCLK OUT (out), 27 RxOUT0 (out), 28 GND (power), 29 RxOUT1 (out), 30 RxOUT2 (out), 31 VCC (power), 32 RxOUT3 (out), 33 RxOUT4 (out), 34 RxOUT5 (out), 35 RxOUT6 (out), 36 GND (power), 37 RxOUT7 (out), 38 RxOUT8 (out), 39 RxOUT9 (out), 40 VCC (power), 41 RxOUT10 (out), 42 RxOUT11 (out), 43 RxOUT12 (out), 44 GND (power), 45 RxOUT13 (out), 46 RxOUT14 (out), 47 RxOUT15 (out), 48 VCC (power), 49 RxOUT16 (out), 50 RxOUT17 (out), 51 RxOUT18 (out), 52 GND (power), 53 RxOUT19 (out), 54 RxOUT20 (out), 55 RxOUT21 (out), 56 VCC (power)

## DS90CF386MTD
designator U?
+3.3V LVDS Receiver 24-Bit Flat Panel Display (FPD) Link - 85 MHz; PartNumber: DS90CF386MTD; Manufacturer: National Semiconductor; CompType: Interface IC; PackageTopMarking: NSUZXYTT*DS90CF386MTD*BBBBB; PowerWise: N; Published: 4-Dec-2008; DatasheetVersion: Feb-2006; PackageVersion: revD, Apr-2003; PackageReference: MTD56; Publisher: Altium Limited; PackageDescription: Molded TSSOP, Jedec, 14 x 6.1 x 0.9mm Body, 56 Lead, 0.50mm Pitch; RoHS: O; PinCount: 56; DigiKeyPartNumber: DS90CF386MTD-ND; Code_IPC: TSSOP50P810-56; ComponentLink1Description: DS90CF386 Datasheet; ComponentLink1URL: http://www.national.com/ds/DS/DS90CF386.pdf; ComponentLink2Description: DS90CF386 Web Page; ComponentLink2URL: http://www.national.com/pf/DS/DS90CF386.html; ComponentLink3Description: MTD56 Package Page; ComponentLink3URL: http://www.national.com/packaging/folders/mtd56.html
footprint MTD56_N (TSSOP, 56-Leads, Body 14x6.1mm, Pitch 0.5mm, IPC Medium Density)
footprint MTD56_L (TSSOP, 56-Leads, Body 14x6.1mm, Pitch 0.5mm, IPC High Density)
footprint MTD56_M (TSSOP, 56-Leads, Body 14x6.1mm, Pitch 0.5mm, IPC Low Density)
pins: 1 RxOUT22 (out), 2 RxOUT23 (out), 3 RxOUT24 (out), 4 GND (power), 5 RxOUT25 (out), 6 RxOUT26 (out), 7 RxOUT27 (out), 8 LVDS GND (power), 9 RxIN0- (in), 10 RxIN0+ (in), 11 RxIN1- (in), 12 RxIN1+ (in), 13 LVDS VCC (power), 14 LVDS GND (power), 15 RxIN2- (in), 16 RxIN2+ (in), 17 RxCLKIN- (in), 18 RxCLKIN+ (in), 19 RxIN3- (in), 20 RxIN3+ (in), 21 LVDS GND (power), 22 PLL GND (power), 23 PLL VCC (power), 24 PLL GND (power), 25 ~{PWR DOWN} (in), 26 RxCLK OUT (out), 27 RxOUT0 (out), 28 GND (power), 29 RxOUT1 (out), 30 RxOUT2 (out), 31 VCC (power), 32 RxOUT3 (out), 33 RxOUT4 (out), 34 RxOUT5 (out), 35 RxOUT6 (out), 36 GND (power), 37 RxOUT7 (out), 38 RxOUT8 (out), 39 RxOUT9 (out), 40 VCC (power), 41 RxOUT10 (out), 42 RxOUT11 (out), 43 RxOUT12 (out), 44 GND (power), 45 RxOUT13 (out), 46 RxOUT14 (out), 47 RxOUT15 (out), 48 VCC (power), 49 RxOUT16 (out), 50 RxOUT17 (out), 51 RxOUT18 (out), 52 GND (power), 53 RxOUT19 (out), 54 RxOUT20 (out), 55 RxOUT21 (out), 56 VCC (power)

## DS90CF386SLC
designator U?
+3.3V LVDS Receiver 24-Bit Flat Panel Display (FPD) Link - 85 MHz; PartNumber: DS90CF386SLC; Manufacturer: National Semiconductor; CompType: Interface IC; PackageTopMarking: NSUZXYTT*DS90CF386*SLC*BBBBB; PowerWise: N; Published: 04-Dec-2008; LatestRevisionDate: 7-Oct-2009; LatestRevisionNote: Names of pins E7, H6, H7 & H5 fixed.; DatasheetVersion: Feb-2006; PackageVersion: revC, Jan, 2003; PackageReference: SLC64A; Publisher: Altium Limited; RoHS: Y; PinCount: 64; DigiKeyPartNumber: DS90CF386SLC-ND; ComponentLink1Description: DS90CF386 Datasheet; ComponentLink1URL: http://www.national.com/ds/DS/DS90CF386.pdf; ComponentLink2Description: DS90CF386 Web Page; ComponentLink2URL: http://www.national.com/pf/DS/DS90CF386.html; ComponentLink3Description: SLC64A Package Page; ComponentLink3URL: http://www.national.com/packaging/folders/slc64a.html
footprint SLC64A (BGA, 64-Leads, Body 8x8mm, Pitch 0.8mm)
pins: A1 RxOUT17 (out), A2 VCC (power), A3 RxOUT15 (out), A4 GND (power), A5 RxOUT12 (out), A6 RxOUT8 (out), A7 RxOUT7 (out), A8 RxOUT6 (out), B1 GND (power), B2 NC, B3 RxOUT16 (out), B4 RxOUT11 (out), B5 VCC (power), B6 GND (power), B7 RxOUT5 (out), B8 RxOUT3 (out), C1 RxOUT21 (out), C2 NC, C3 RxOUT18 (out), C4 RxOUT14 (out), C5 RxOUT9 (out), C6 RxOUT4 (out), C7 NC, C8 RxOUT1 (out), D1 VCC (power), D2 RxOUT20 (out), D3 RxOUT19 (out), D4 RxOUT13 (out), D5 RxOUT10 (out), D6 VCC (power), D7 RxOUT2 (out), D8 GND (power), E1 RxOUT22 (out), E2 RxOUT24 (out), E3 GND (power), E4 LVDS VCC (power), E5 LVDS GND (power), E6 ~{PWR DOWN} (in), E7 RxCLKOUT (out), E8 RxOUT0 (out), F1 RxOUT23 (out), F2 RxOUT26 (out), F3 NC, F4 RxIN1- (in), F5 RxIN2+ (in), F6 PLL GND (power), F7 PLL VCC (power), F8 NC, G1 RxOUT25 (out), G2 NC, G3 LVDS GND (power), G4 RxIN1+ (in), G5 RxIN2- (in), G6 RxIN3- (in), G7 LVDS GND (power), G8 PLL GND (power), H1 RxOUT27 (out), H2 RxIN0- (in), H3 RxIN0+ (in), H4 LVDS VCC (power), H5 LVDS GND (power), H6 RxCLKIN- (in), H7 RxCLKIN+ (in), H8 RxIN3+ (in)

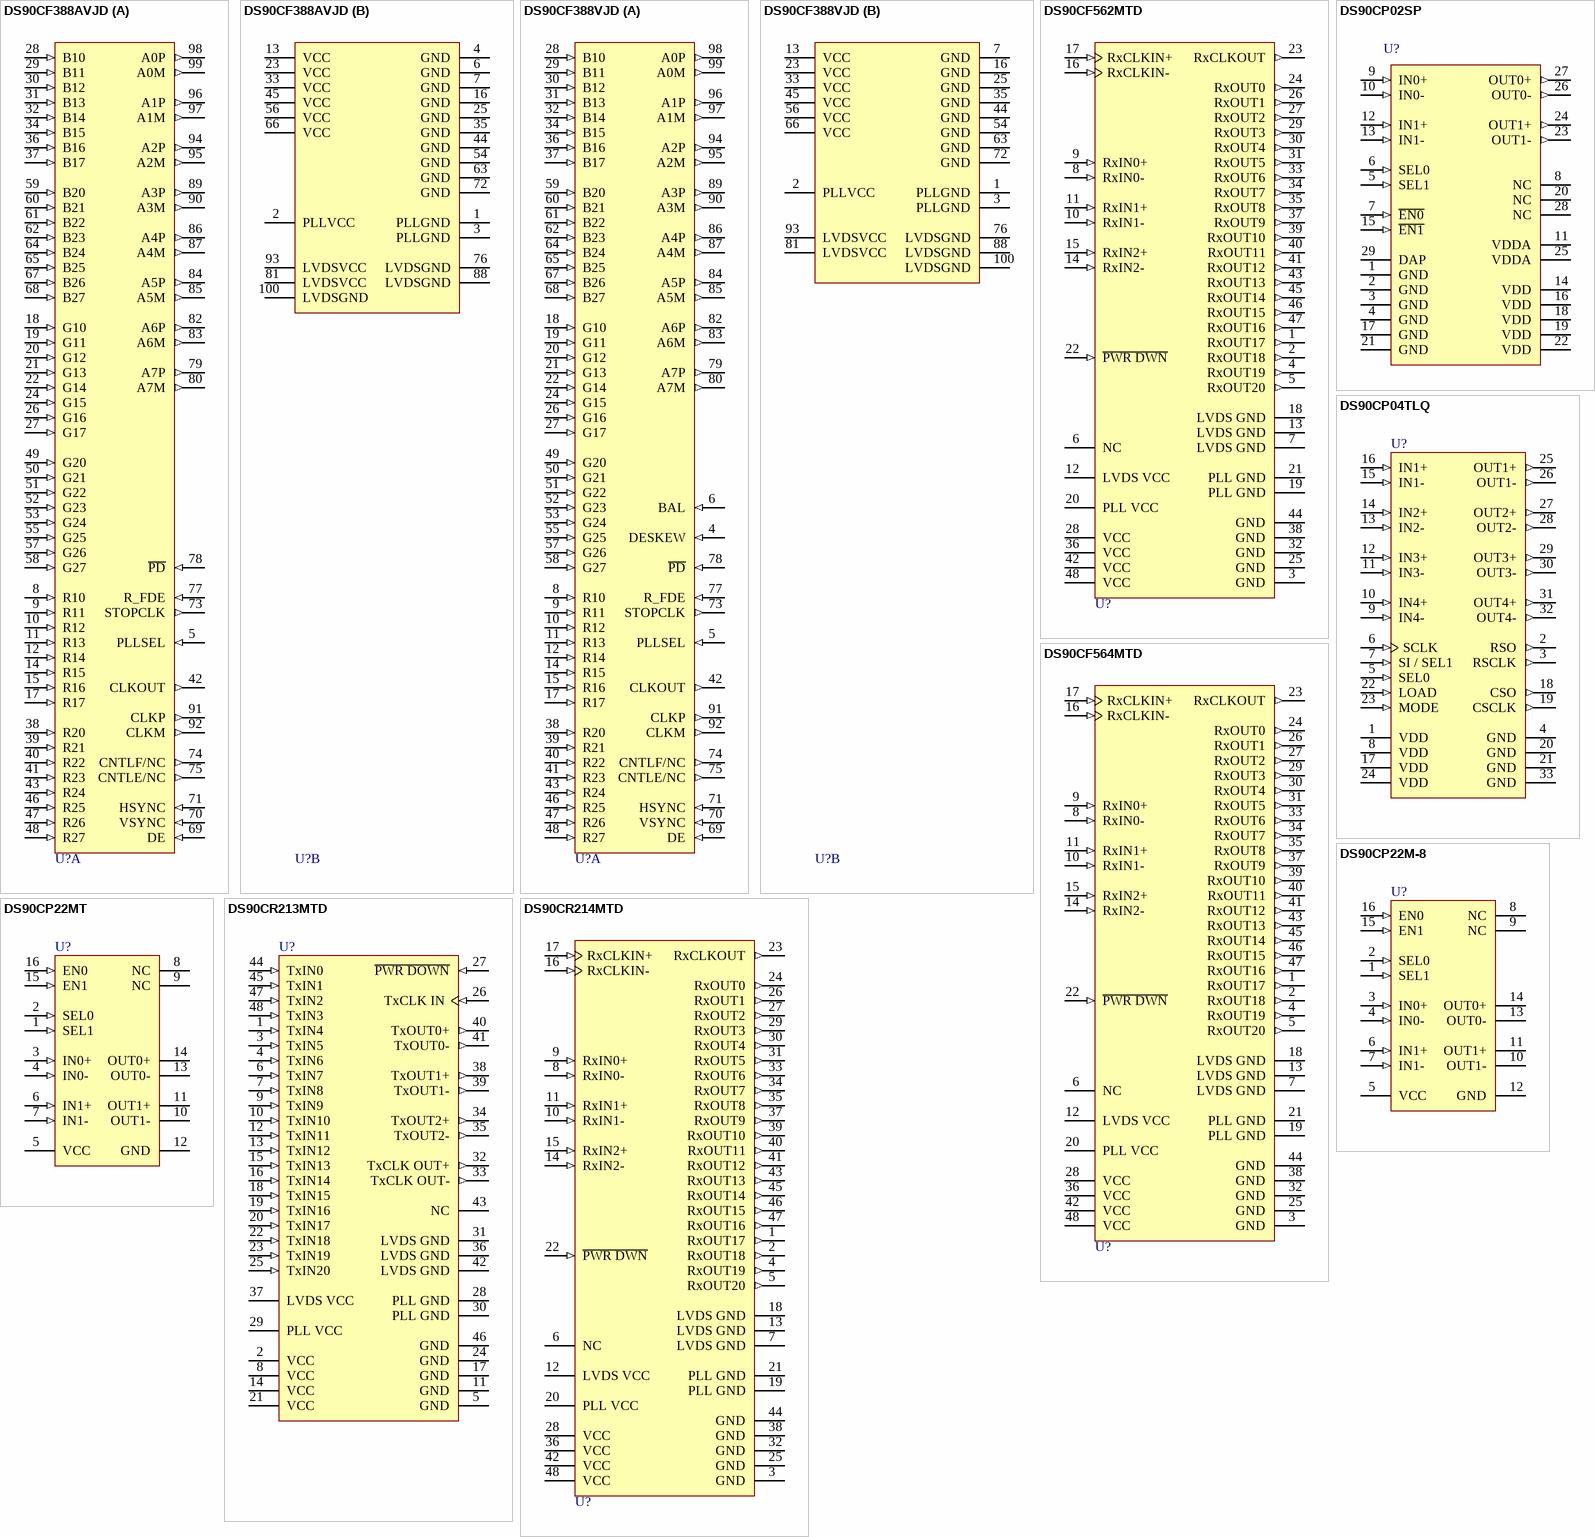
[diagram p16: symbols DS90CF388AVJD to DS90CR214MTD]

## DS90CF388AVJD
designator U?
Dual Pixel LVDS Display Interface / FPD-Link Receiver; PartNumber: DS90CF388AVJD; Manufacturer: National Semiconductor; CompType: Interface IC; PackageTopMarking: NS2ZXYYTT*DS90CF388AVJD*BBBBB; PowerWise: N; Published: 4-Dec-2008; DatasheetVersion: Feb-2006; PackageVersion: revC, May-2004; PackageReference: VJD100A; Publisher: Altium Limited; PackageDescription: TQFP, Jedec, Metric, 14 x 14 x 1.0mm, 100 Lead; RoHS: Y; PinCount: 100; DigiKeyPartNumber: DS90CF388AVJD-ND; Code_JEDEC: MS-026-AED; ComponentLink1Description: DS90CF388A Datasheet; ComponentLink1URL: http://www.national.com/ds/DS/DS90CF388A.pdf; ComponentLink2Description: DS90CF388A Web Page; ComponentLink2URL: http://www.national.com/pf/DS/DS90CF388A.html; ComponentLink3Description: VJD100A Package Page; ComponentLink3URL: http://www.national.com/packaging/folders/vjd100a.html
footprint VJD100A_N (Thin QFP, 100-Leads, Body 14x14mm, Pitch 0.5mm, IPC Medium Density)
footprint VJD100A_L (Thin QFP, 100-Leads, Body 14x14mm, Pitch 0.5mm, IPC High Density)
footprint VJD100A_M (Thin QFP, 100-Leads, Body 14x14mm, Pitch 0.5mm, IPC Low Density)
part A pins: 5 PLLSEL (in), 8 R10 (in), 9 R11 (in), 10 R12 (in), 11 R13 (in), 12 R14 (in), 14 R15 (in), 15 R16 (in), 17 R17 (in), 18 G10 (in), 19 G11 (in), 20 G12 (in), 21 G13 (in), 22 G14 (in), 24 G15 (in), 26 G16 (in), 27 G17 (in), 28 B10 (in), 29 B11 (in), 30 B12 (in), 31 B13 (in), 32 B14 (in), 34 B15 (in), 36 B16 (in), 37 B17 (in), 38 R20 (in), 39 R21 (in), 40 R22 (in), 41 R23 (in), 42 CLKOUT (out), 43 R24 (in), 46 R25 (in), 47 R26 (in), 48 R27 (in), 49 G20 (in), 50 G21 (in), 51 G22 (in), 52 G23 (in), 53 G24 (in), 55 G25 (in), 57 G26 (in), 58 G27 (in), 59 B20 (in), 60 B21 (in), 61 B22 (in), 62 B23 (in), 64 B24 (in), 65 B25 (in), 67 B26 (in), 68 B27 (in), 69 DE (in), 70 VSYNC (in), 71 HSYNC (in), 73 STOPCLK (out), 74 CNTLF/NC (out), 75 CNTLE/NC (out), 77 R_FDE (in), 78 ~{PD} (in), 79 A7P (out), 80 A7M (out), 82 A6P (out), 83 A6M (out), 84 A5P (out), 85 A5M (out), 86 A4P (out), 87 A4M (out), 89 A3P (out), 90 A3M (out), 91 CLKP (out), 92 CLKM (out), 94 A2P (out), 95 A2M (out), 96 A1P (out), 97 A1M (out), 98 A0P (out), 99 A0M (out)
part B pins: 1 PLLGND (power), 2 PLLVCC (power), 3 PLLGND (power), 4 GND (power), 6 GND (power), 7 GND (power), 13 VCC (power), 16 GND (power), 23 VCC (power), 25 GND (power), 33 VCC (power), 35 GND (power), 44 GND (power), 45 VCC (power), 54 GND (power), 56 VCC (power), 63 GND (power), 66 VCC (power), 72 GND (power), 76 LVDSGND (power), 81 LVDSVCC (power), 88 LVDSGND (power), 93 LVDSVCC (power), 100 LVDSGND (power)

## DS90CF388VJD
designator U?
+3.3V Dual Pixel LVDS Display Interface (LDI)-SVGA/QXGA; PartNumber: DS90CF388VJD; Manufacturer: National Semiconductor; CompType: Interface IC; PackageTopMarking: NS2ZXYYTT*DS90CF388VJD*BBBBB; PowerWise: N; Published: 4-Dec-2008; DatasheetVersion: Feb-2006; PackageVersion: revC, May-2004; PackageReference: VJD100A; Publisher: Altium Limited; PackageDescription: TQFP, Jedec, Metric, 14 x 14 x 1.0mm, 100 Lead; RoHS: O; PinCount: 100; DigiKeyPartNumber: DS90CF388VJD-ND; Code_JEDEC: MS-026-AED; ComponentLink1Description: DS90CF388 Datasheet; ComponentLink1URL: http://www.national.com/ds/DS/DS90CF388.pdf; ComponentLink2Description: DS90CF388 Web Page; ComponentLink2URL: http://www.national.com/pf/DS/DS90CF388.html; ComponentLink3Description: VJD100A Package Page; ComponentLink3URL: http://www.national.com/packaging/folders/vjd100a.html
footprint VJD100A_N (Thin QFP, 100-Leads, Body 14x14mm, Pitch 0.5mm, IPC Medium Density)
footprint VJD100A_L (Thin QFP, 100-Leads, Body 14x14mm, Pitch 0.5mm, IPC High Density)
footprint VJD100A_M (Thin QFP, 100-Leads, Body 14x14mm, Pitch 0.5mm, IPC Low Density)
part A pins: 4 DESKEW (in), 5 PLLSEL (in), 6 BAL (in), 8 R10 (in), 9 R11 (in), 10 R12 (in), 11 R13 (in), 12 R14 (in), 14 R15 (in), 15 R16 (in), 17 R17 (in), 18 G10 (in), 19 G11 (in), 20 G12 (in), 21 G13 (in), 22 G14 (in), 24 G15 (in), 26 G16 (in), 27 G17 (in), 28 B10 (in), 29 B11 (in), 30 B12 (in), 31 B13 (in), 32 B14 (in), 34 B15 (in), 36 B16 (in), 37 B17 (in), 38 R20 (in), 39 R21 (in), 40 R22 (in), 41 R23 (in), 42 CLKOUT (out), 43 R24 (in), 46 R25 (in), 47 R26 (in), 48 R27 (in), 49 G20 (in), 50 G21 (in), 51 G22 (in), 52 G23 (in), 53 G24 (in), 55 G25 (in), 57 G26 (in), 58 G27 (in), 59 B20 (in), 60 B21 (in), 61 B22 (in), 62 B23 (in), 64 B24 (in), 65 B25 (in), 67 B26 (in), 68 B27 (in), 69 DE (in), 70 VSYNC (in), 71 HSYNC (in), 73 STOPCLK (out), 74 CNTLF/NC (out), 75 CNTLE/NC (out), 77 R_FDE (in), 78 ~{PD} (in), 79 A7P (out), 80 A7M (out), 82 A6P (out), 83 A6M (out), 84 A5P (out), 85 A5M (out), 86 A4P (out), 87 A4M (out), 89 A3P (out), 90 A3M (out), 91 CLKP (out), 92 CLKM (out), 94 A2P (out), 95 A2M (out), 96 A1P (out), 97 A1M (out), 98 A0P (out), 99 A0M (out)
part B pins: 1 PLLGND (power), 2 PLLVCC (power), 3 PLLGND (power), 7 GND (power), 13 VCC (power), 16 GND (power), 23 VCC (power), 25 GND (power), 33 VCC (power), 35 GND (power), 44 GND (power), 45 VCC (power), 54 GND (power), 56 VCC (power), 63 GND (power), 66 VCC (power), 72 GND (power), 76 LVDSGND (power), 81 LVDSVCC (power), 88 LVDSGND (power), 93 LVDSVCC (power), 100 LVDSGND (power)

## DS90CF562MTD
designator U?
LVDS 18-Bit Color Flat Panel Display (FPD) Link; PartNumber: DS90CF562MTD; Manufacturer: National Semiconductor; CompType: Interface IC; PackageTopMarking: NSUZXYTT*DS90CF562MTD*BBBBB; PowerWise: N; Published: 4-Dec-2008; DatasheetVersion: May-1997; PackageVersion: revE, Apr-2003; PackageReference: MTD48; Publisher: Altium Limited; PackageDescription: Molded TSSOP, Jedec, 12.5 x 6.1 x 0.9mm Body, 48 Lead, 0.50mm Pitch; RoHS: O; PinCount: 48; DigiKeyPartNumber: DS90CF562MTD-ND; Code_JEDEC: MO-153-ED; ComponentLink1Description: DS90CF562 Datasheet; ComponentLink1URL: http://www.national.com/ds/DS/DS90CF562.pdf; ComponentLink2Description: DS90CF562 Web Page; ComponentLink2URL: http://www.national.com/pf/DS/DS90CF562.html; ComponentLink3Description: MTD48 Package Page; ComponentLink3URL: http://www.national.com/packaging/folders/mtd48.html
footprint MTD48_N (TSSOP, 48-Leads, Body 12.5x6.1mm, Pitch 0.5mm, IPC Medium Density)
footprint MTD48_L (TSSOP, 48-Leads, Body 12.5x6.1mm, Pitch 0.5mm, IPC High Density)
footprint MTD48_M (TSSOP, 48-Leads, Body 12.5x6.1mm, Pitch 0.5mm, IPC Low Density)
pins: 1 RxOUT17 (out), 2 RxOUT18 (out), 3 GND (power), 4 RxOUT19 (out), 5 RxOUT20 (out), 6 NC, 7 LVDS GND (power), 8 RxIN0- (in), 9 RxIN0+ (in), 10 RxIN1- (in), 11 RxIN1+ (in), 12 LVDS VCC (power), 13 LVDS GND (power), 14 RxIN2- (in), 15 RxIN2+ (in), 16 RxCLKIN- (in), 17 RxCLKIN+ (in), 18 LVDS GND (power), 19 PLL GND (power), 20 PLL VCC (power), 21 PLL GND (power), 22 ~{PWR DWN} (in), 23 RxCLKOUT (out), 24 RxOUT0 (out), 25 GND (power), 26 RxOUT1 (out), 27 RxOUT2 (out), 28 VCC (power), 29 RxOUT3 (out), 30 RxOUT4 (out), 31 RxOUT5 (out), 32 GND (power), 33 RxOUT6 (out), 34 RxOUT7 (out), 35 RxOUT8 (out), 36 VCC (power), 37 RxOUT9 (out), 38 GND (power), 39 RxOUT10 (out), 40 RxOUT11 (out), 41 RxOUT12 (out), 42 VCC (power), 43 RxOUT13 (out), 44 GND (power), 45 RxOUT14 (out), 46 RxOUT15 (out), 47 RxOUT16 (out), 48 VCC (power)

## DS90CF564MTD
designator U?
LVDS 18-Bit Color Flat Panel Display (FPD) Link - 65 MHz; PartNumber: DS90CF564MTD; Manufacturer: National Semiconductor; CompType: Interface IC; PackageTopMarking: NSUZXYTT*DS90CF564MTD*BBBBB; PowerWise: N; Published: 4-Dec-2008; DatasheetVersion: Jul-1997; PackageVersion: revE, Apr-2003; PackageReference: MTD48; Publisher: Altium Limited; PackageDescription: Molded TSSOP, Jedec, 12.5 x 6.1 x 0.9mm Body, 48 Lead, 0.50mm Pitch; RoHS: Y; PinCount: 48; DigiKeyPartNumber: DS90CF564MTD-ND; Code_JEDEC: MO-153-ED; ComponentLink1Description: DS90CF564 Datasheet; ComponentLink1URL: http://www.national.com/ds/DS/DS90CF564.pdf; ComponentLink2Description: DS90CF564 Web Page; ComponentLink2URL: http://www.national.com/pf/DS/DS90CF564.html; ComponentLink3Description: MTD48 Package Page; ComponentLink3URL: http://www.national.com/packaging/folders/mtd48.html
footprint MTD48_N (TSSOP, 48-Leads, Body 12.5x6.1mm, Pitch 0.5mm, IPC Medium Density)
footprint MTD48_L (TSSOP, 48-Leads, Body 12.5x6.1mm, Pitch 0.5mm, IPC High Density)
footprint MTD48_M (TSSOP, 48-Leads, Body 12.5x6.1mm, Pitch 0.5mm, IPC Low Density)
pins: 1 RxOUT17 (out), 2 RxOUT18 (out), 3 GND (power), 4 RxOUT19 (out), 5 RxOUT20 (out), 6 NC, 7 LVDS GND (power), 8 RxIN0- (in), 9 RxIN0+ (in), 10 RxIN1- (in), 11 RxIN1+ (in), 12 LVDS VCC (power), 13 LVDS GND (power), 14 RxIN2- (in), 15 RxIN2+ (in), 16 RxCLKIN- (in), 17 RxCLKIN+ (in), 18 LVDS GND (power), 19 PLL GND (power), 20 PLL VCC (power), 21 PLL GND (power), 22 ~{PWR DWN} (in), 23 RxCLKOUT (out), 24 RxOUT0 (out), 25 GND (power), 26 RxOUT1 (out), 27 RxOUT2 (out), 28 VCC (power), 29 RxOUT3 (out), 30 RxOUT4 (out), 31 RxOUT5 (out), 32 GND (power), 33 RxOUT6 (out), 34 RxOUT7 (out), 35 RxOUT8 (out), 36 VCC (power), 37 RxOUT9 (out), 38 GND (power), 39 RxOUT10 (out), 40 RxOUT11 (out), 41 RxOUT12 (out), 42 VCC (power), 43 RxOUT13 (out), 44 GND (power), 45 RxOUT14 (out), 46 RxOUT15 (out), 47 RxOUT16 (out), 48 VCC (power)

## DS90CP02SP
designator U?
1.5 Gbps 2x2 LVDS Crosspoint Switch; PartNumber: DS90CP02SP; Manufacturer: National Semiconductor; CompType: Interface IC; PackageTopMarking: NS*UZXYTT*CP02SP; PowerWise: N; Published: 29-May-2009; DatasheetVersion: Nov-2008; PackageVersion: revA, Aug-2003; PackageReference: SPA28A; Publisher: Altium Limited; RoHS: Y; PinCount: 28; DigiKeyPartNumber: DS90CP02SPTR-ND; Code_JEDEC: MO-220-WHHD-3; ComponentLink1Description: DS90CP02 Datasheet; ComponentLink1URL: http://www.national.com/ds/DS/DS90CP02.pdf; ComponentLink2Description: DS90CP02 Web Page; ComponentLink2URL: http://www.national.com/pf/DS/DS90CP02.html; ComponentLink3Description: SPA28A Package Page; ComponentLink3URL: http://www.national.com/packaging/folders/spa28a.html
footprint SPA28A (QFN, 28-Leads, Body 5x5mm, Pitch 0.5mm, NSC Recommended)
pins: 1 GND (power), 2 GND (power), 3 GND (power), 4 GND (power), 5 SEL1 (in), 6 SEL0 (in), 7 ~{EN0} (in), 8 NC, 9 IN0+ (in), 10 IN0- (in), 11 VDDA (power), 12 IN1+ (in), 13 IN1- (in), 14 VDD (power), 15 ~{EN1} (in), 16 VDD (power), 17 GND (power), 18 VDD (power), 19 VDD (power), 20 NC, 21 GND (power), 22 VDD (power), 23 OUT1- (out), 24 OUT1+ (out), 25 VDDA (power), 26 OUT0- (out), 27 OUT0+ (out), 28 NC, 29 DAP

## DS90CP04TLQ
designator U?
1.5 Gbps 4x4 LVDS Crosspoint Switch; PartNumber: DS90CP04TLQ; Manufacturer: National Semiconductor; CompType: Interface IC; PackageTopMarking: NS*UZXYTT*90CP04T; PowerWise: N; Published: 4-Dec-2008; DatasheetVersion: Dec-2007; PackageVersion: revA, Feb-2001; PackageReference: LQA32A; Publisher: Altium Limited; PackageDescription: LLP, Plastic, Quad, 6 x 6 x 0.8mm Body, 32 Lead, 0.5mm Pitch; RoHS: O; PinCount: 32; DigiKeyPartNumber: DS90CP04TLQTR-ND; ComponentLink1Description: DS90CP04 Datasheet; ComponentLink1URL: http://www.national.com/ds/DS/DS90CP04.pdf; ComponentLink2Description: DS90CP04 Web Page; ComponentLink2URL: http://www.national.com/pf/DS/DS90CP04.html; ComponentLink3Description: LQA32A Package Page; ComponentLink3URL: http://www.national.com/packaging/folders/lqa32a.html
footprint LQA32A (PQFN, 32-Leads, Body 6x6mm, Pitch 0.5mm, NSC Recommended)
pins: 1 VDD (power), 2 RSO (out), 3 RSCLK (out), 4 GND (power), 5 SEL0 (in), 6 SCLK (in), 7 SI / SEL1 (in), 8 VDD (power), 9 IN4- (in), 10 IN4+ (in), 11 IN3- (in), 12 IN3+ (in), 13 IN2- (in), 14 IN2+ (in), 15 IN1- (in), 16 IN1+ (in), 17 VDD (power), 18 CSO (out), 19 CSCLK (out), 20 GND (power), 21 GND (power), 22 LOAD (in), 23 MODE (in), 24 VDD (power), 25 OUT1+ (out), 26 OUT1- (out), 27 OUT2+ (out), 28 OUT2- (out), 29 OUT3+ (out), 30 OUT3- (out), 31 OUT4+ (out), 32 OUT4- (out), 33 GND (power)

## DS90CP22M-8
designator U?
800 Mbps 2x2 LVDS Crosspoint Switch; PartNumber: DS90CP22M-8; Manufacturer: National Semiconductor; CompType: Interface IC; PackageTopMarking: NSUZXYTT*DS90CP22M*-8; PowerWise: N; Published: 4-Dec-2008; DatasheetVersion: Dec-2007; PackageVersion: revJ, Aug-1995; PackageReference: M16A; Publisher: Altium Limited; PackageDescription: Molded Package, S.O., .150in Wide, 16 Lead; RoHS: O; PinCount: 16; DigiKeyPartNumber: DS90CP22M-8-ND; Code_JEDEC: MS-012-AC; Code_IPC: SOIC127P600-16; ComponentLink1Description: DS90CP22 Datasheet; ComponentLink1URL: http://www.national.com/ds/DS/DS90CP22.pdf; ComponentLink2Description: DS90CP22 Web Page; ComponentLink2URL: http://www.national.com/pf/DS/DS90CP22.html; ComponentLink3Description: M16A Package Page; ComponentLink3URL: http://www.national.com/packaging/folders/m16a.html
footprint M16A_N (SOIC, 16-Leads, Body 9.9x3.9mm, Pitch 1.27mm, IPC Medium Density)
footprint M16A_L (SOIC, 16-Leads, Body 9.9x3.9mm, Pitch 1.27mm, IPC High Density)
footprint M16A_M (SOIC, 16-Leads, Body 9.9x3.9mm, Pitch 1.27mm, IPC Low Density)
pins: 1 SEL1 (in), 2 SEL0 (in), 3 IN0+ (in), 4 IN0- (in), 5 VCC (power), 6 IN1+ (in), 7 IN1- (in), 8 NC, 9 NC, 10 OUT1- (hiz), 11 OUT1+ (hiz), 12 GND (power), 13 OUT0- (hiz), 14 OUT0+ (hiz), 15 EN1 (in), 16 EN0 (in)

## DS90CP22MT
designator U?
800 Mbps 2x2 LVDS Crosspoint Switch; PartNumber: DS90CP22MT; Manufacturer: National Semiconductor; CompType: Interface IC; PackageTopMarking: NSZXYTT*DS90CP*22MT; PowerWise: N; Published: 4-Dec-2008; DatasheetVersion: Dec-2007; PackageVersion: revD, Jun-2003; PackageReference: MTC16; Publisher: Altium Limited; PackageDescription: Molded TSSOP, Jedec, 5 x 4.4 x 0.9mm Body, 16 Lead, 0.65mm Pitch; RoHS: Y; PinCount: 16; DigiKeyPartNumber: DS90CP22MT-ND; Code_JEDEC: MO-153-AB; ComponentLink1Description: DS90CP22 Datasheet; ComponentLink1URL: http://www.national.com/ds/DS/DS90CP22.pdf; ComponentLink2Description: DS90CP22 Web Page; ComponentLink2URL: http://www.national.com/pf/DS/DS90CP22.html; ComponentLink3Description: MTC16 Package Page; ComponentLink3URL: http://www.national.com/packaging/folders/mtc16.html
footprint MTC16_N (TSOP, 16-Leads, Body 5x4.4mm, Pitch 0.65mm, IPC Medium Density)
footprint MTC16_L (TSOP, 16-Leads, Body 5x4.4mm, Pitch 0.65mm, IPC High Density)
footprint MTC16_M (TSOP, 16-Leads, Body 5x4.4mm, Pitch 0.65mm, IPC Low Density)
pins: 1 SEL1 (in), 2 SEL0 (in), 3 IN0+ (in), 4 IN0- (in), 5 VCC (power), 6 IN1+ (in), 7 IN1- (in), 8 NC, 9 NC, 10 OUT1- (hiz), 11 OUT1+ (hiz), 12 GND (power), 13 OUT0- (hiz), 14 OUT0+ (hiz), 15 EN1 (in), 16 EN0 (in)

## DS90CR213MTD
designator U?
21-Bit Channel Link - 66 MHz; PartNumber: DS90CR213MTD; Manufacturer: National Semiconductor; CompType: Interface IC; PackageTopMarking: NSUZXYTT*DS90CR213MTD*BBBBB; Published: 4-Dec-2008; DatasheetVersion: Aug-2005; PackageVersion: revE, Apr-2003; PackageReference: MTD48; Publisher: Altium Limited; PackageDescription: Molded TSSOP, Jedec, 12.5 x 6.1 x 0.9mm Body, 48 Lead, 0.50mm Pitch; RoHS: Y; PinCount: 48; DigiKeyPartNumber: DS90CR213MTD-ND; Code_JEDEC: MO-153-ED; ComponentLink1Description: DS90CR213 Datasheet; ComponentLink1URL: http://www.national.com/ds/DS/DS90CR213.pdf; ComponentLink2Description: DS90CR213 Web Page; ComponentLink2URL: http://www.national.com/pf/DS/DS90CR213.html; ComponentLink3Description: MTD48 Package Page; ComponentLink3URL: http://www.national.com/packaging/folders/mtd48.html
footprint MTD48_N (TSSOP, 48-Leads, Body 12.5x6.1mm, Pitch 0.5mm, IPC Medium Density)
footprint MTD48_L (TSSOP, 48-Leads, Body 12.5x6.1mm, Pitch 0.5mm, IPC High Density)
footprint MTD48_M (TSSOP, 48-Leads, Body 12.5x6.1mm, Pitch 0.5mm, IPC Low Density)
pins: 1 TxIN4 (in), 2 VCC (power), 3 TxIN5 (in), 4 TxIN6 (in), 5 GND (power), 6 TxIN7 (in), 7 TxIN8 (in), 8 VCC (power), 9 TxIN9 (in), 10 TxIN10 (in), 11 GND (power), 12 TxIN11 (in), 13 TxIN12 (in), 14 VCC (power), 15 TxIN13 (in), 16 TxIN14 (in), 17 GND (power), 18 TxIN15 (in), 19 TxIN16 (in), 20 TxIN17 (in), 21 VCC (power), 22 TxIN18 (in), 23 TxIN19 (in), 24 GND (power), 25 TxIN20 (in), 26 TxCLK IN (in), 27 ~{PWR DOWN} (in), 28 PLL GND (power), 29 PLL VCC (power), 30 PLL GND (power), 31 LVDS GND (power), 32 TxCLK OUT+ (out), 33 TxCLK OUT- (out), 34 TxOUT2+ (out), 35 TxOUT2- (out), 36 LVDS GND (power), 37 LVDS VCC (power), 38 TxOUT1+ (out), 39 TxOUT1- (out), 40 TxOUT0+ (out), 41 TxOUT0- (out), 42 LVDS GND (power), 43 NC, 44 TxIN0 (in), 45 TxIN1 (in), 46 GND (power), 47 TxIN2 (in), 48 TxIN3 (in)

## DS90CR214MTD
designator U?
21-Bit Channel Link - 66 MHz; PartNumber: DS90CR214MTD; Manufacturer: National Semiconductor; CompType: Interface IC; PackageTopMarking: NSUZXYTT*DS90CR214MTD*BBBBB; Published: 4-Dec-2008; DatasheetVersion: Aug-2005; PackageVersion: revE, Apr-2003; PackageReference: MTD48; Publisher: Altium Limited; PackageDescription: Molded TSSOP, Jedec, 12.5 x 6.1 x 0.9mm Body, 48 Lead, 0.50mm Pitch; RoHS: Y; PinCount: 48; DigiKeyPartNumber: DS90CR214MTD-ND; Code_JEDEC: MO-153-ED; ComponentLink1Description: DS90CR214 Datasheet; ComponentLink1URL: http://www.national.com/ds/DS/DS90CR214.pdf; ComponentLink2Description: DS90CR214 Web Page; ComponentLink2URL: http://www.national.com/pf/DS/DS90CR214.html; ComponentLink3Description: MTD48 Package Page; ComponentLink3URL: http://www.national.com/packaging/folders/mtd48.html
footprint MTD48_N (TSSOP, 48-Leads, Body 12.5x6.1mm, Pitch 0.5mm, IPC Medium Density)
footprint MTD48_L (TSSOP, 48-Leads, Body 12.5x6.1mm, Pitch 0.5mm, IPC High Density)
footprint MTD48_M (TSSOP, 48-Leads, Body 12.5x6.1mm, Pitch 0.5mm, IPC Low Density)
pins: 1 RxOUT17 (out), 2 RxOUT18 (out), 3 GND (power), 4 RxOUT19 (out), 5 RxOUT20 (out), 6 NC, 7 LVDS GND (power), 8 RxIN0- (in), 9 RxIN0+ (in), 10 RxIN1- (in), 11 RxIN1+ (in), 12 LVDS VCC (power), 13 LVDS GND (power), 14 RxIN2- (in), 15 RxIN2+ (in), 16 RxCLKIN- (in), 17 RxCLKIN+ (in), 18 LVDS GND (power), 19 PLL GND (power), 20 PLL VCC (power), 21 PLL GND (power), 22 ~{PWR DWN} (in), 23 RxCLKOUT (out), 24 RxOUT0 (out), 25 GND (power), 26 RxOUT1 (out), 27 RxOUT2 (out), 28 VCC (power), 29 RxOUT3 (out), 30 RxOUT4 (out), 31 RxOUT5 (out), 32 GND (power), 33 RxOUT6 (out), 34 RxOUT7 (out), 35 RxOUT8 (out), 36 VCC (power), 37 RxOUT9 (out), 38 GND (power), 39 RxOUT10 (out), 40 RxOUT11 (out), 41 RxOUT12 (out), 42 VCC (power), 43 RxOUT13 (out), 44 GND (power), 45 RxOUT14 (out), 46 RxOUT15 (out), 47 RxOUT16 (out), 48 VCC (power)

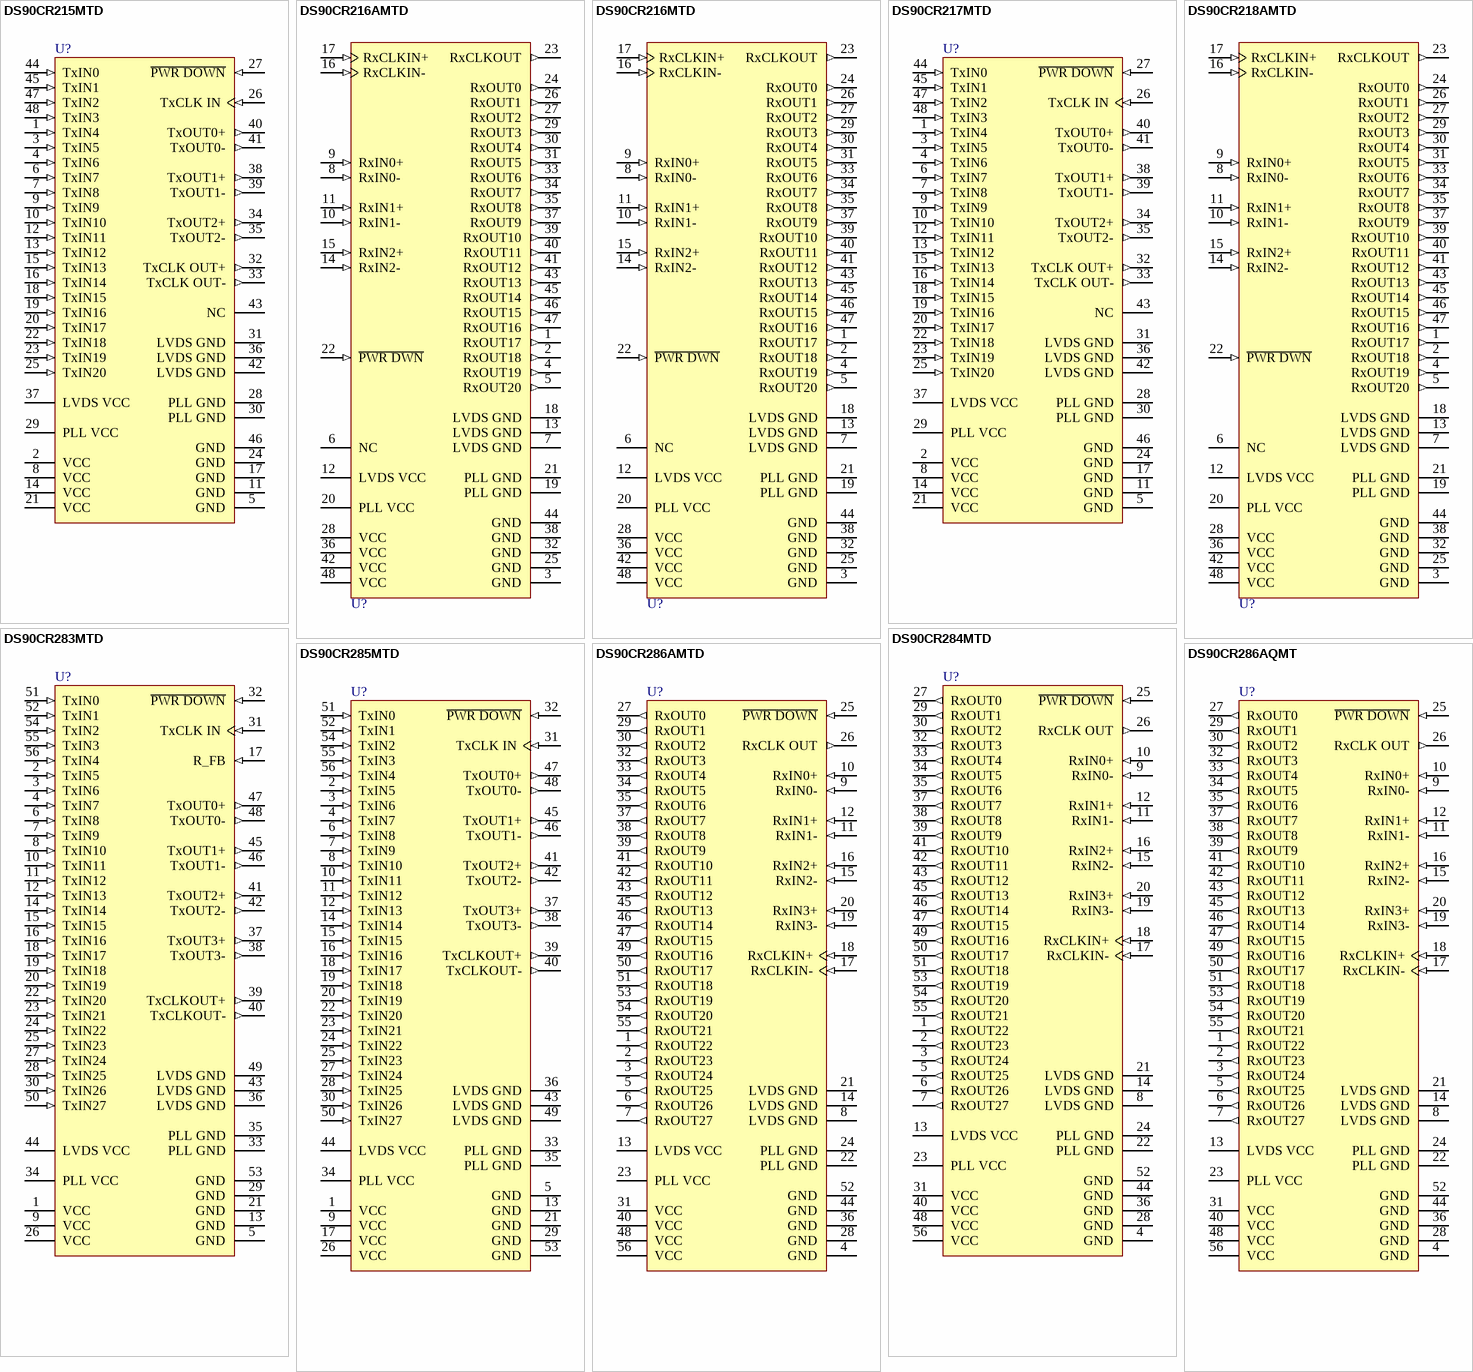
[diagram p17: symbols DS90CR215MTD to DS90CR286AQMT]